# Altium integrated library Xilinx Aerospace and Defense.IntLib: 197 symbols (part 44 of 56)
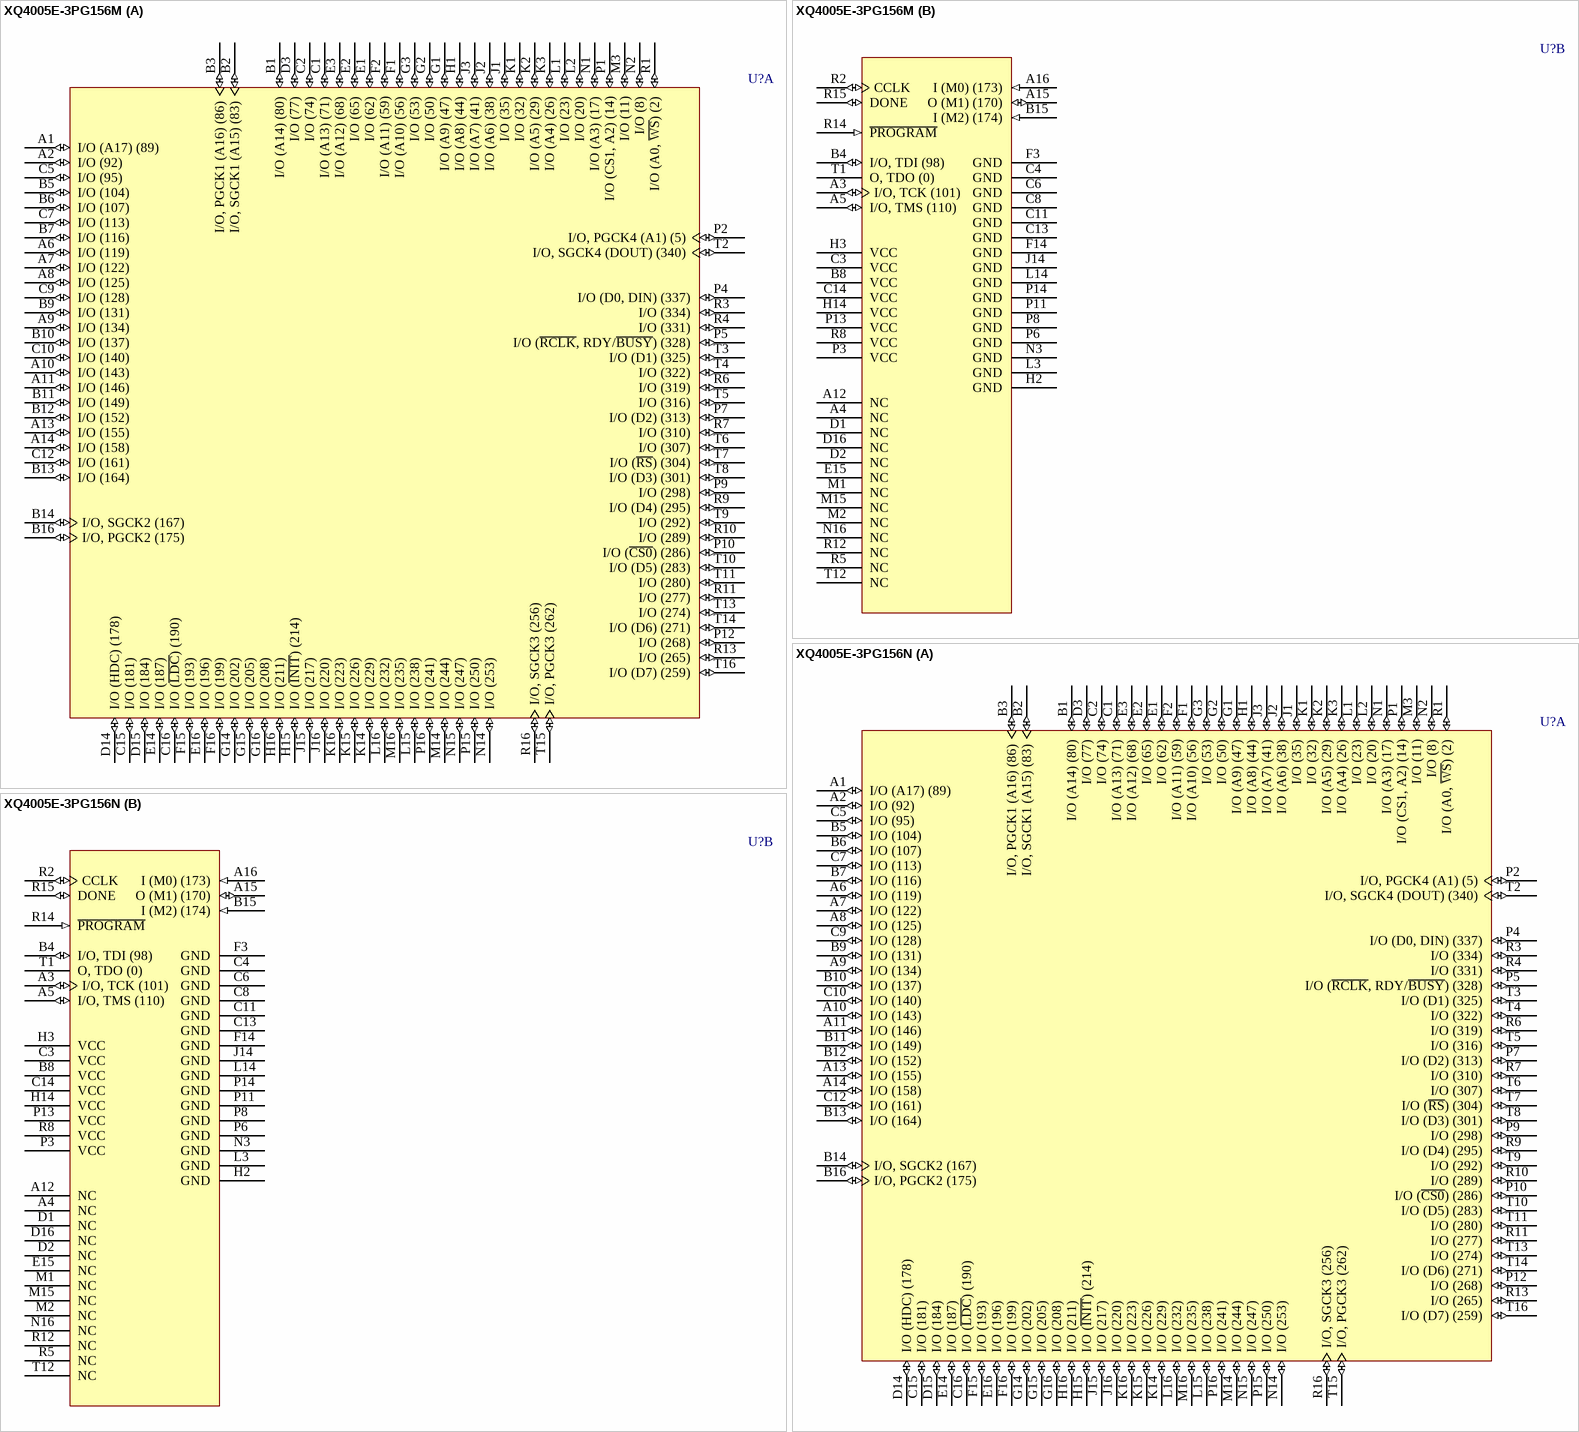
[diagram p351: symbols XQ4005E-3PG156M to XQ4005E-3PG156N]

## XQ4005E-3PG156N
designator U?
QPro XQ4005E QML 5V High-Reliability FPGA, 112 I/Os, 156-Pin Ceramic PGA, Speed Grade 3, Military Plastic Temperature Grade; Published: 17-Nov-2009; DatasheetVersion: ver2.2, Jun-2000; PackageVersion: ver1.1, Apr-2001; PackageReference: PG156; Publisher: Altium Limited; PackageDescription: 156-Pin Ceramic Pin Grid Array (PG156); Code_JEDEC: MO-067-AH; ComponentLink1Description: QPRO XQ4000E/EX Datasheet; ComponentLink1URL: http://www.xilinx.com/support/documentation/data_sheets/ds021.pdf; ComponentLink2Description: PG156 Package Drawing; ComponentLink2URL: http://www.xilinx.com/support/documentation/package_specs/pg156.pdf; ComponentLink3Description: Xilinx.com Home; ComponentLink3URL: http://www.xilinx.com
footprint PG156 (PGA, 156-Leads, Body 42x42mm, Pitch 2.54mm)
signal-integrity model XQ4005E_PG156 (XC-Series)
part A pins: A1 I/O (A17) (89) (io), A2 I/O (92) (io), A6 I/O (119) (io), A7 I/O (122) (io), A8 I/O (125) (io), A9 I/O (134) (io), A10 I/O (143) (io), A11 I/O (146) (io), A13 I/O (155) (io), A14 I/O (158) (io), B1 I/O (A14) (80) (io), B2 I/O, SGCK1 (A15) (83) (io), B3 I/O, PGCK1 (A16) (86) (io), B5 I/O (104) (io), B6 I/O (107) (io), B7 I/O (116) (io), B9 I/O (131) (io), B10 I/O (137) (io), B11 I/O (149) (io), B12 I/O (152) (io), B13 I/O (164) (io), B14 I/O, SGCK2 (167) (io), B16 I/O, PGCK2 (175) (io), C1 I/O (A13) (71) (io), C2 I/O (74) (io), C5 I/O (95) (io), C7 I/O (113) (io), C9 I/O (128) (io), C10 I/O (140) (io), C12 I/O (161) (io), C15 I/O (181) (io), C16 I/O (~{LDC}) (190) (io), D3 I/O (77) (io), D14 I/O (HDC) (178) (io), D15 I/O (184) (io), E1 I/O (62) (io), E2 I/O (65) (io), E3 I/O (A12) (68) (io), E14 I/O (187) (io), E16 I/O (196) (io), F1 I/O (A10) (56) (io), F2 I/O (A11) (59) (io), F15 I/O (193) (io), F16 I/O (199) (io), G1 I/O (A9) (47) (io), G2 I/O (50) (io), G3 I/O (53) (io), G14 I/O (202) (io), G15 I/O (205) (io), G16 I/O (208) (io), H1 I/O (A8) (44) (io), H15 I/O (~{INIT}) (214) (io), H16 I/O (211) (io), J1 I/O (35) (io), J2 I/O (A6) (38) (io), J3 I/O (A7) (41) (io), J15 I/O (217) (io), J16 I/O (220) (io), K1 I/O (32) (io), K2 I/O (A5) (29) (io), K3 I/O (A4) (26) (io), K14 I/O (229) (io), K15 I/O (226) (io), K16 I/O (223) (io), L1 I/O (23) (io), L2 I/O (20) (io), L15 I/O (238) (io), L16 I/O (232) (io), M3 I/O (11) (io), M14 I/O (244) (io), M16 I/O (235) (io), N1 I/O (A3) (17) (io), N2 I/O (8) (io), N14 I/O (253) (io), N15 I/O (247) (io), P1 I/O (CS1, A2) (14) (io), P2 I/O, PGCK4 (A1) (5) (io), P4 I/O (D0, DIN) (337) (io), P5 I/O (~{RCLK}, RDY/~{BUSY}) (328) (io), P7 I/O (D2) (313) (io), P9 I/O (298) (io), P10 I/O (~{CS0}) (286) (io), P12 I/O (268) (io), P15 I/O (250) (io), P16 I/O (241) (io), R1 I/O (A0, ~{WS}) (2) (io), R3 I/O (334) (io), R4 I/O (331) (io), R6 I/O (319) (io), R7 I/O (310) (io), R9 I/O (D4) (295) (io), R10 I/O (289) (io), R11 I/O (277) (io), R13 I/O (265) (io), R16 I/O, SGCK3 (256) (io), T2 I/O, SGCK4 (DOUT) (340) (io), T3 I/O (D1) (325) (io), T4 I/O (322) (io), T5 I/O (316) (io), T6 I/O (307) (io), T7 I/O (~{RS}) (304) (io), T8 I/O (D3) (301) (io), T9 I/O (292) (io), T10 I/O (D5) (283) (io), T11 I/O (280) (io), T13 I/O (274) (io), T14 I/O (D6) (271) (io), T15 I/O, PGCK3 (262) (io), T16 I/O (D7) (259) (io)
part B pins: A3 I/O, TCK (101) (io), A4 NC, A5 I/O, TMS (110) (io), A12 NC, A15 O (M1) (170) (io), A16 I (M0) (173) (in), B4 I/O, TDI (98) (io), B8 VCC (power), B15 I (M2) (174) (in), C3 VCC (power), C4 GND (power), C6 GND (power), C8 GND (power), C11 GND (power), C13 GND (power), C14 VCC (power), D1 NC, D2 NC, D16 NC, E15 NC, F3 GND (power), F14 GND (power), H2 GND (power), H3 VCC (power), H14 VCC (power), J14 GND (power), L3 GND (power), L14 GND (power), M1 NC, M2 NC, M15 NC, N3 GND (power), N16 NC, P3 VCC (power), P6 GND (power), P8 GND (power), P11 GND (power), P13 VCC (power), P14 GND (power), R2 CCLK (io), R5 NC, R8 VCC (power), R12 NC, R14 ~{PROGRAM} (in), R15 DONE (io), T1 O, TDO (0) (hiz), T12 NC

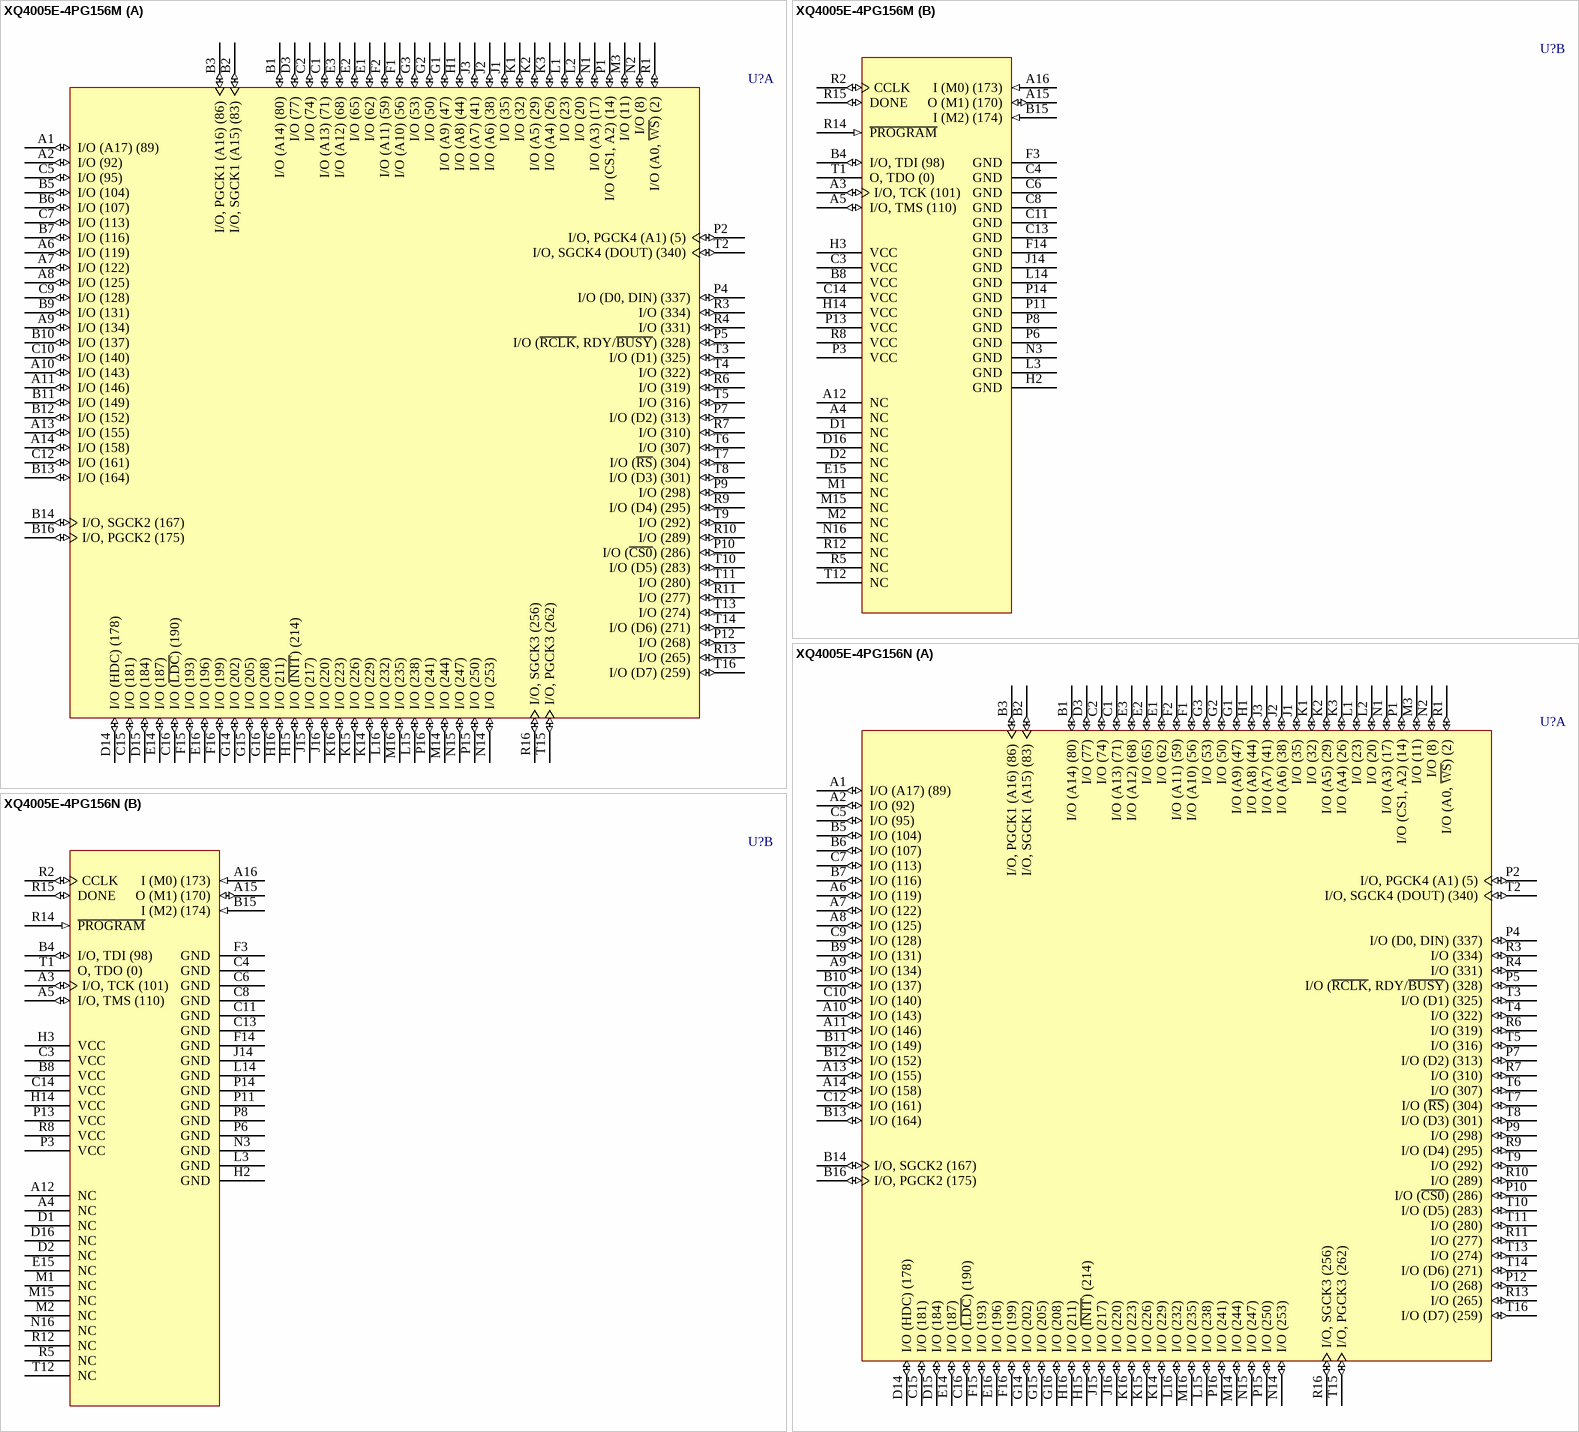
[diagram p154: symbols XQ4005E-4PG156M to XQ4005E-4PG156N]

## XQ4005E-4PG156M
designator U?
QPro XQ4005E QML 5V High-Reliability FPGA, 156-Pin Ceramic PGA, Speed Grade 4, Military Ceramic Temperature Grade; Published: 17-Nov-2009; DatasheetVersion: ver2.2, Jun-2000; PackageVersion: ver1.1, Apr-2001; PackageReference: PG156; Publisher: Altium Limited; PackageDescription: 156-Pin Ceramic Pin Grid Array (PG156); Code_JEDEC: MO-067-AH; ComponentLink1Description: QPRO XQ4000E/EX Datasheet; ComponentLink1URL: http://www.xilinx.com/support/documentation/data_sheets/ds021.pdf; ComponentLink2Description: PG156 Package Drawing; ComponentLink2URL: http://www.xilinx.com/support/documentation/package_specs/pg156.pdf; ComponentLink3Description: Xilinx.com Home; ComponentLink3URL: http://www.xilinx.com
footprint PG156 (PGA, 156-Leads, Body 42x42mm, Pitch 2.54mm)
signal-integrity model XQ4005E_PG156 (XC-Series)
part A pins: A1 I/O (A17) (89) (io), A2 I/O (92) (io), A6 I/O (119) (io), A7 I/O (122) (io), A8 I/O (125) (io), A9 I/O (134) (io), A10 I/O (143) (io), A11 I/O (146) (io), A13 I/O (155) (io), A14 I/O (158) (io), B1 I/O (A14) (80) (io), B2 I/O, SGCK1 (A15) (83) (io), B3 I/O, PGCK1 (A16) (86) (io), B5 I/O (104) (io), B6 I/O (107) (io), B7 I/O (116) (io), B9 I/O (131) (io), B10 I/O (137) (io), B11 I/O (149) (io), B12 I/O (152) (io), B13 I/O (164) (io), B14 I/O, SGCK2 (167) (io), B16 I/O, PGCK2 (175) (io), C1 I/O (A13) (71) (io), C2 I/O (74) (io), C5 I/O (95) (io), C7 I/O (113) (io), C9 I/O (128) (io), C10 I/O (140) (io), C12 I/O (161) (io), C15 I/O (181) (io), C16 I/O (~{LDC}) (190) (io), D3 I/O (77) (io), D14 I/O (HDC) (178) (io), D15 I/O (184) (io), E1 I/O (62) (io), E2 I/O (65) (io), E3 I/O (A12) (68) (io), E14 I/O (187) (io), E16 I/O (196) (io), F1 I/O (A10) (56) (io), F2 I/O (A11) (59) (io), F15 I/O (193) (io), F16 I/O (199) (io), G1 I/O (A9) (47) (io), G2 I/O (50) (io), G3 I/O (53) (io), G14 I/O (202) (io), G15 I/O (205) (io), G16 I/O (208) (io), H1 I/O (A8) (44) (io), H15 I/O (~{INIT}) (214) (io), H16 I/O (211) (io), J1 I/O (35) (io), J2 I/O (A6) (38) (io), J3 I/O (A7) (41) (io), J15 I/O (217) (io), J16 I/O (220) (io), K1 I/O (32) (io), K2 I/O (A5) (29) (io), K3 I/O (A4) (26) (io), K14 I/O (229) (io), K15 I/O (226) (io), K16 I/O (223) (io), L1 I/O (23) (io), L2 I/O (20) (io), L15 I/O (238) (io), L16 I/O (232) (io), M3 I/O (11) (io), M14 I/O (244) (io), M16 I/O (235) (io), N1 I/O (A3) (17) (io), N2 I/O (8) (io), N14 I/O (253) (io), N15 I/O (247) (io), P1 I/O (CS1, A2) (14) (io), P2 I/O, PGCK4 (A1) (5) (io), P4 I/O (D0, DIN) (337) (io), P5 I/O (~{RCLK}, RDY/~{BUSY}) (328) (io), P7 I/O (D2) (313) (io), P9 I/O (298) (io), P10 I/O (~{CS0}) (286) (io), P12 I/O (268) (io), P15 I/O (250) (io), P16 I/O (241) (io), R1 I/O (A0, ~{WS}) (2) (io), R3 I/O (334) (io), R4 I/O (331) (io), R6 I/O (319) (io), R7 I/O (310) (io), R9 I/O (D4) (295) (io), R10 I/O (289) (io), R11 I/O (277) (io), R13 I/O (265) (io), R16 I/O, SGCK3 (256) (io), T2 I/O, SGCK4 (DOUT) (340) (io), T3 I/O (D1) (325) (io), T4 I/O (322) (io), T5 I/O (316) (io), T6 I/O (307) (io), T7 I/O (~{RS}) (304) (io), T8 I/O (D3) (301) (io), T9 I/O (292) (io), T10 I/O (D5) (283) (io), T11 I/O (280) (io), T13 I/O (274) (io), T14 I/O (D6) (271) (io), T15 I/O, PGCK3 (262) (io), T16 I/O (D7) (259) (io)
part B pins: A3 I/O, TCK (101) (io), A4 NC, A5 I/O, TMS (110) (io), A12 NC, A15 O (M1) (170) (io), A16 I (M0) (173) (in), B4 I/O, TDI (98) (io), B8 VCC (power), B15 I (M2) (174) (in), C3 VCC (power), C4 GND (power), C6 GND (power), C8 GND (power), C11 GND (power), C13 GND (power), C14 VCC (power), D1 NC, D2 NC, D16 NC, E15 NC, F3 GND (power), F14 GND (power), H2 GND (power), H3 VCC (power), H14 VCC (power), J14 GND (power), L3 GND (power), L14 GND (power), M1 NC, M2 NC, M15 NC, N3 GND (power), N16 NC, P3 VCC (power), P6 GND (power), P8 GND (power), P11 GND (power), P13 VCC (power), P14 GND (power), R2 CCLK (io), R5 NC, R8 VCC (power), R12 NC, R14 ~{PROGRAM} (in), R15 DONE (io), T1 O, TDO (0) (hiz), T12 NC

## XQ4005E-4PG156N
designator U?
QPro XQ4005E QML 5V High-Reliability FPGA, 112 I/Os, 156-Pin Ceramic PGA, Speed Grade 4, Military Plastic Temperature Grade; Published: 17-Nov-2009; DatasheetVersion: ver2.2, Jun-2000; PackageVersion: ver1.1, Apr-2001; PackageReference: PG156; Publisher: Altium Limited; PackageDescription: 156-Pin Ceramic Pin Grid Array (PG156); Code_JEDEC: MO-067-AH; ComponentLink1Description: QPRO XQ4000E/EX Datasheet; ComponentLink1URL: http://www.xilinx.com/support/documentation/data_sheets/ds021.pdf; ComponentLink2Description: PG156 Package Drawing; ComponentLink2URL: http://www.xilinx.com/support/documentation/package_specs/pg156.pdf; ComponentLink3Description: Xilinx.com Home; ComponentLink3URL: http://www.xilinx.com
footprint PG156 (PGA, 156-Leads, Body 42x42mm, Pitch 2.54mm)
signal-integrity model XQ4005E_PG156 (XC-Series)
part A pins: A1 I/O (A17) (89) (io), A2 I/O (92) (io), A6 I/O (119) (io), A7 I/O (122) (io), A8 I/O (125) (io), A9 I/O (134) (io), A10 I/O (143) (io), A11 I/O (146) (io), A13 I/O (155) (io), A14 I/O (158) (io), B1 I/O (A14) (80) (io), B2 I/O, SGCK1 (A15) (83) (io), B3 I/O, PGCK1 (A16) (86) (io), B5 I/O (104) (io), B6 I/O (107) (io), B7 I/O (116) (io), B9 I/O (131) (io), B10 I/O (137) (io), B11 I/O (149) (io), B12 I/O (152) (io), B13 I/O (164) (io), B14 I/O, SGCK2 (167) (io), B16 I/O, PGCK2 (175) (io), C1 I/O (A13) (71) (io), C2 I/O (74) (io), C5 I/O (95) (io), C7 I/O (113) (io), C9 I/O (128) (io), C10 I/O (140) (io), C12 I/O (161) (io), C15 I/O (181) (io), C16 I/O (~{LDC}) (190) (io), D3 I/O (77) (io), D14 I/O (HDC) (178) (io), D15 I/O (184) (io), E1 I/O (62) (io), E2 I/O (65) (io), E3 I/O (A12) (68) (io), E14 I/O (187) (io), E16 I/O (196) (io), F1 I/O (A10) (56) (io), F2 I/O (A11) (59) (io), F15 I/O (193) (io), F16 I/O (199) (io), G1 I/O (A9) (47) (io), G2 I/O (50) (io), G3 I/O (53) (io), G14 I/O (202) (io), G15 I/O (205) (io), G16 I/O (208) (io), H1 I/O (A8) (44) (io), H15 I/O (~{INIT}) (214) (io), H16 I/O (211) (io), J1 I/O (35) (io), J2 I/O (A6) (38) (io), J3 I/O (A7) (41) (io), J15 I/O (217) (io), J16 I/O (220) (io), K1 I/O (32) (io), K2 I/O (A5) (29) (io), K3 I/O (A4) (26) (io), K14 I/O (229) (io), K15 I/O (226) (io), K16 I/O (223) (io), L1 I/O (23) (io), L2 I/O (20) (io), L15 I/O (238) (io), L16 I/O (232) (io), M3 I/O (11) (io), M14 I/O (244) (io), M16 I/O (235) (io), N1 I/O (A3) (17) (io), N2 I/O (8) (io), N14 I/O (253) (io), N15 I/O (247) (io), P1 I/O (CS1, A2) (14) (io), P2 I/O, PGCK4 (A1) (5) (io), P4 I/O (D0, DIN) (337) (io), P5 I/O (~{RCLK}, RDY/~{BUSY}) (328) (io), P7 I/O (D2) (313) (io), P9 I/O (298) (io), P10 I/O (~{CS0}) (286) (io), P12 I/O (268) (io), P15 I/O (250) (io), P16 I/O (241) (io), R1 I/O (A0, ~{WS}) (2) (io), R3 I/O (334) (io), R4 I/O (331) (io), R6 I/O (319) (io), R7 I/O (310) (io), R9 I/O (D4) (295) (io), R10 I/O (289) (io), R11 I/O (277) (io), R13 I/O (265) (io), R16 I/O, SGCK3 (256) (io), T2 I/O, SGCK4 (DOUT) (340) (io), T3 I/O (D1) (325) (io), T4 I/O (322) (io), T5 I/O (316) (io), T6 I/O (307) (io), T7 I/O (~{RS}) (304) (io), T8 I/O (D3) (301) (io), T9 I/O (292) (io), T10 I/O (D5) (283) (io), T11 I/O (280) (io), T13 I/O (274) (io), T14 I/O (D6) (271) (io), T15 I/O, PGCK3 (262) (io), T16 I/O (D7) (259) (io)
part B pins: A3 I/O, TCK (101) (io), A4 NC, A5 I/O, TMS (110) (io), A12 NC, A15 O (M1) (170) (io), A16 I (M0) (173) (in), B4 I/O, TDI (98) (io), B8 VCC (power), B15 I (M2) (174) (in), C3 VCC (power), C4 GND (power), C6 GND (power), C8 GND (power), C11 GND (power), C13 GND (power), C14 VCC (power), D1 NC, D2 NC, D16 NC, E15 NC, F3 GND (power), F14 GND (power), H2 GND (power), H3 VCC (power), H14 VCC (power), J14 GND (power), L3 GND (power), L14 GND (power), M1 NC, M2 NC, M15 NC, N3 GND (power), N16 NC, P3 VCC (power), P6 GND (power), P8 GND (power), P11 GND (power), P13 VCC (power), P14 GND (power), R2 CCLK (io), R5 NC, R8 VCC (power), R12 NC, R14 ~{PROGRAM} (in), R15 DONE (io), T1 O, TDO (0) (hiz), T12 NC

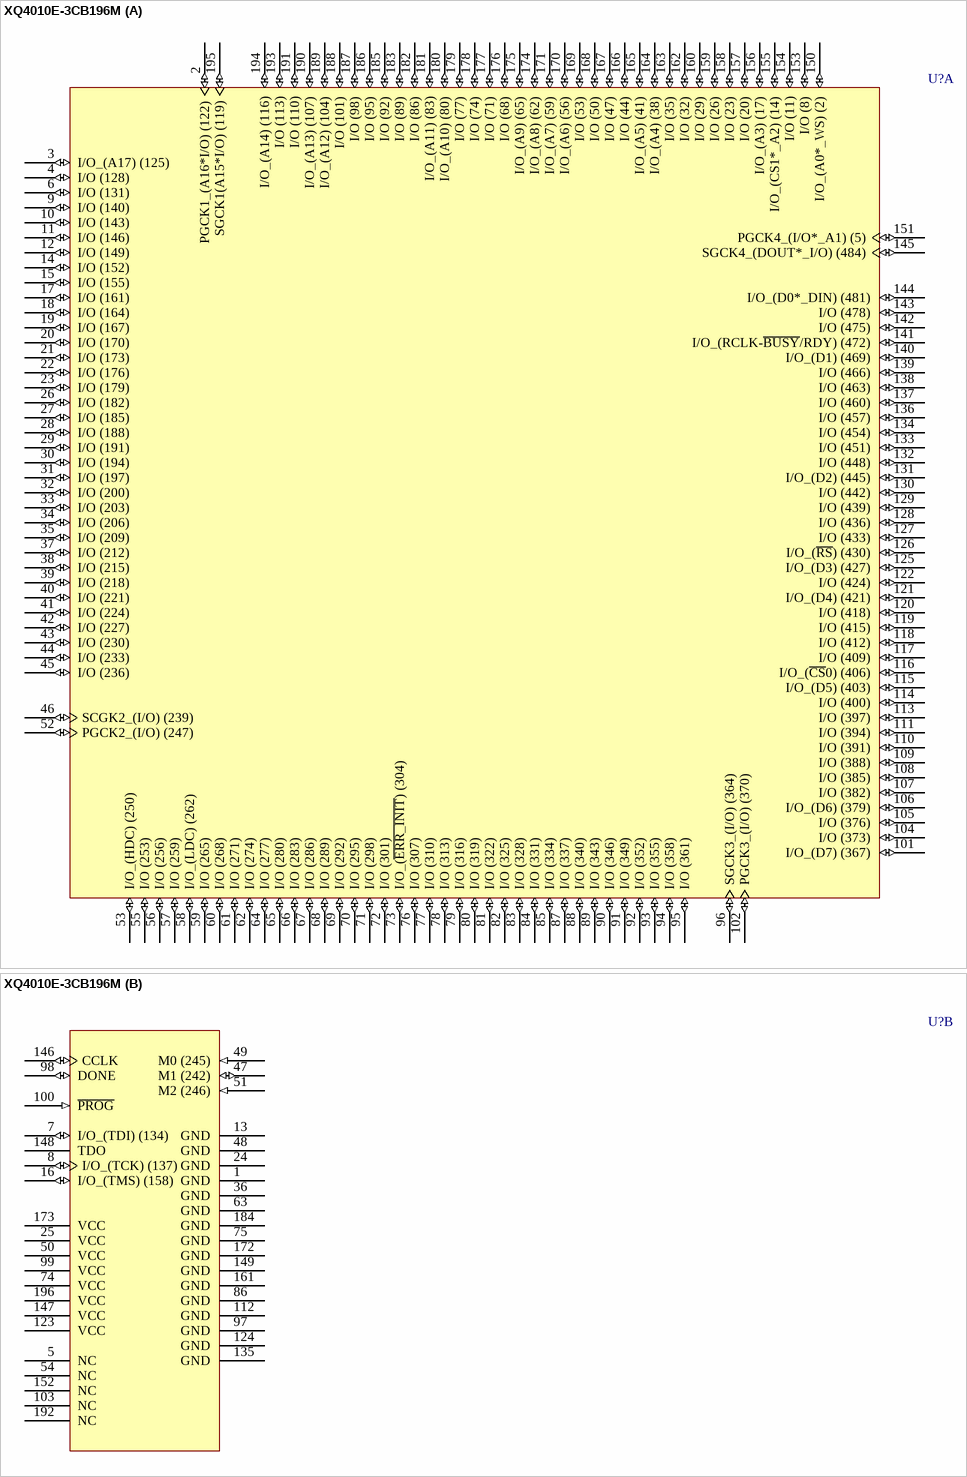
[diagram p155: symbol XQ4010E-3CB196M]

## XQ4010E-3CB196M
designator U?
QPro XQ4010E QML 5V High-Reliability FPGA, 160 I/Os, 196-Pin CQFP, Speed Grade 3, Military Ceramic Temperature Grade; Published: 17-Nov-2009; DatasheetVersion: ver2.2, Jun-2000; PackageVersion: ver1.0.1, Apr-2008; PackageReference: CB196; Publisher: Altium Limited; PackageDescription: 196-Pin Ceramic Brazed Quad Flat Pack (CB196); Code_JEDEC: MO-113-AB; ComponentLink1Description: QPRO XQ4000E/EX Datasheet; ComponentLink1URL: http://www.xilinx.com/support/documentation/data_sheets/ds021.pdf; ComponentLink2Description: CB196 Package Drawing; ComponentLink2URL: http://www.xilinx.com/support/documentation/package_specs/cb196.pdf; ComponentLink3Description: Xilinx.com Home; ComponentLink3URL: http://www.xilinx.com
footprint CB196_N (CQFP, 196-Leads, Body 34x34mm; Pitch 0.635mm, Gullwing Leadform, IPC Medium Density)
footprint CB196_L (CQFP, 196-Leads, Body 34x34mm; Pitch 0.635mm, Gullwing Leadform, IPC High Density)
footprint CB196_M (CQFP, 196-Leads, Body 34x34mm; Pitch 0.635mm, Gullwing Leadform, IPC Low Density)
signal-integrity model XQ4010E_CB196 (XC-Series)
part A pins: 2 PGCK1_(A16*I/O) (122) (io), 3 I/O_(A17) (125) (io), 4 I/O (128) (io), 6 I/O (131) (io), 9 I/O (140) (io), 10 I/O (143) (io), 11 I/O (146) (io), 12 I/O (149) (io), 14 I/O (152) (io), 15 I/O (155) (io), 17 I/O (161) (io), 18 I/O (164) (io), 19 I/O (167) (io), 20 I/O (170) (io), 21 I/O (173) (io), 22 I/O (176) (io), 23 I/O (179) (io), 26 I/O (182) (io), 27 I/O (185) (io), 28 I/O (188) (io), 29 I/O (191) (io), 30 I/O (194) (io), 31 I/O (197) (io), 32 I/O (200) (io), 33 I/O (203) (io), 34 I/O (206) (io), 35 I/O (209) (io), 37 I/O (212) (io), 38 I/O (215) (io), 39 I/O (218) (io), 40 I/O (221) (io), 41 I/O (224) (io), 42 I/O (227) (io), 43 I/O (230) (io), 44 I/O (233) (io), 45 I/O (236) (io), 46 SCGK2_(I/O) (239) (io), 52 PGCK2_(I/O) (247) (io), 53 I/O_(HDC) (250) (io), 55 I/O (253) (io), 56 I/O (256) (io), 57 I/O (259) (io), 58 I/O_(LDC) (262) (io), 59 I/O (265) (io), 60 I/O (268) (io), 61 I/O (271) (io), 62 I/O (274) (io), 64 I/O (277) (io), 65 I/O (280) (io), 66 I/O (283) (io), 67 I/O (286) (io), 68 I/O (289) (io), 69 I/O (292) (io), 70 I/O (295) (io), 71 I/O (298) (io), 72 I/O (301) (io), 73 I/O_(~{ERR_INIT}) (304) (io), 76 I/O (307) (io), 77 I/O (310) (io), 78 I/O (313) (io), 79 I/O (316) (io), 80 I/O (319) (io), 81 I/O (322) (io), 82 I/O (325) (io), 83 I/O (328) (io), 84 I/O (331) (io), 85 I/O (334) (io), 87 I/O (337) (io), 88 I/O (340) (io), 89 I/O (343) (io), 90 I/O (346) (io), 91 I/O (349) (io), 92 I/O (352) (io), 93 I/O (355) (io), 94 I/O (358) (io), 95 I/O (361) (io), 96 SGCK3_(I/O) (364) (io), 101 I/O_(D7) (367) (io), 102 PGCK3_(I/O) (370) (io), 104 I/O (373) (io), 105 I/O (376) (io), 106 I/O_(D6) (379) (io), 107 I/O (382) (io), 108 I/O (385) (io), 109 I/O (388) (io), 110 I/O (391) (io), 111 I/O (394) (io), 113 I/O (397) (io), 114 I/O (400) (io), 115 I/O_(D5) (403) (io), 116 I/O_(~{CS}0) (406) (io), 117 I/O (409) (io), 118 I/O (412) (io), 119 I/O (415) (io), 120 I/O (418) (io), 121 I/O_(D4) (421) (io), 122 I/O (424) (io), 125 I/O_(D3) (427) (io), 126 I/O_(~{RS}) (430) (io), 127 I/O (433) (io), 128 I/O (436) (io), 129 I/O (439) (io), 130 I/O (442) (io), 131 I/O_(D2) (445) (io), 132 I/O (448) (io), 133 I/O (451) (io), 134 I/O (454) (io), 136 I/O (457) (io), 137 I/O (460) (io), 138 I/O (463) (io), 139 I/O (466) (io), 140 I/O_(D1) (469) (io), 141 I/O_(RCLK-~{BUSY}/RDY) (472) (io), 142 I/O (475) (io), 143 I/O (478) (io), 144 I/O_(D0*_DIN) (481) (io), 145 SGCK4_(DOUT*_I/O) (484) (io), 150 I/O_(A0*_WS) (2) (io), 151 PGCK4_(I/O*_A1) (5) (io), 153 I/O (8) (io), 154 I/O (11) (io), 155 I/O_(CS1*_A2) (14) (io), 156 I/O_(A3) (17) (io), 157 I/O (20) (io), 158 I/O (23) (io), 159 I/O (26) (io), 160 I/O (29) (io), 162 I/O (32) (io), 163 I/O (35) (io), 164 I/O_(A4) (38) (io), 165 I/O_(A5) (41) (io), 166 I/O (44) (io), 167 I/O (47) (io), 168 I/O (50) (io), 169 I/O (53) (io), 170 I/O_(A6) (56) (io), 171 I/O_(A7) (59) (io), 174 I/O_(A8) (62) (io), 175 I/O_(A9) (65) (io), 176 I/O (68) (io), 177 I/O (71) (io), 178 I/O (74) (io), 179 I/O (77) (io), 180 I/O_(A10) (80) (io), 181 I/O_(A11) (83) (io), 182 I/O (86) (io), 183 I/O (89) (io), 185 I/O (92) (io), 186 I/O (95) (io), 187 I/O (98) (io), 188 I/O (101) (io), 189 I/O_(A12) (104) (io), 190 I/O_(A13) (107) (io), 191 I/O (110) (io), 193 I/O (113) (io), 194 I/O_(A14) (116) (io), 195 SGCK1(A15*I/O) (119) (io)
part B pins: 1 GND (power), 5 NC, 7 I/O_(TDI) (134) (io), 8 I/O_(TCK) (137) (io), 13 GND (power), 16 I/O_(TMS) (158) (io), 24 GND (power), 25 VCC (power), 36 GND (power), 47 M1 (242) (io), 48 GND (power), 49 M0 (245) (in), 50 VCC (power), 51 M2 (246) (in), 54 NC, 63 GND (power), 74 VCC (power), 75 GND (power), 86 GND (power), 97 GND (power), 98 DONE (io), 99 VCC (power), 100 ~{PROG} (in), 103 NC, 112 GND (power), 123 VCC (power), 124 GND (power), 135 GND (power), 146 CCLK (io), 147 VCC (power), 148 TDO (hiz), 149 GND (power), 152 NC, 161 GND (power), 172 GND (power), 173 VCC (power), 184 GND (power), 192 NC, 196 VCC (power)

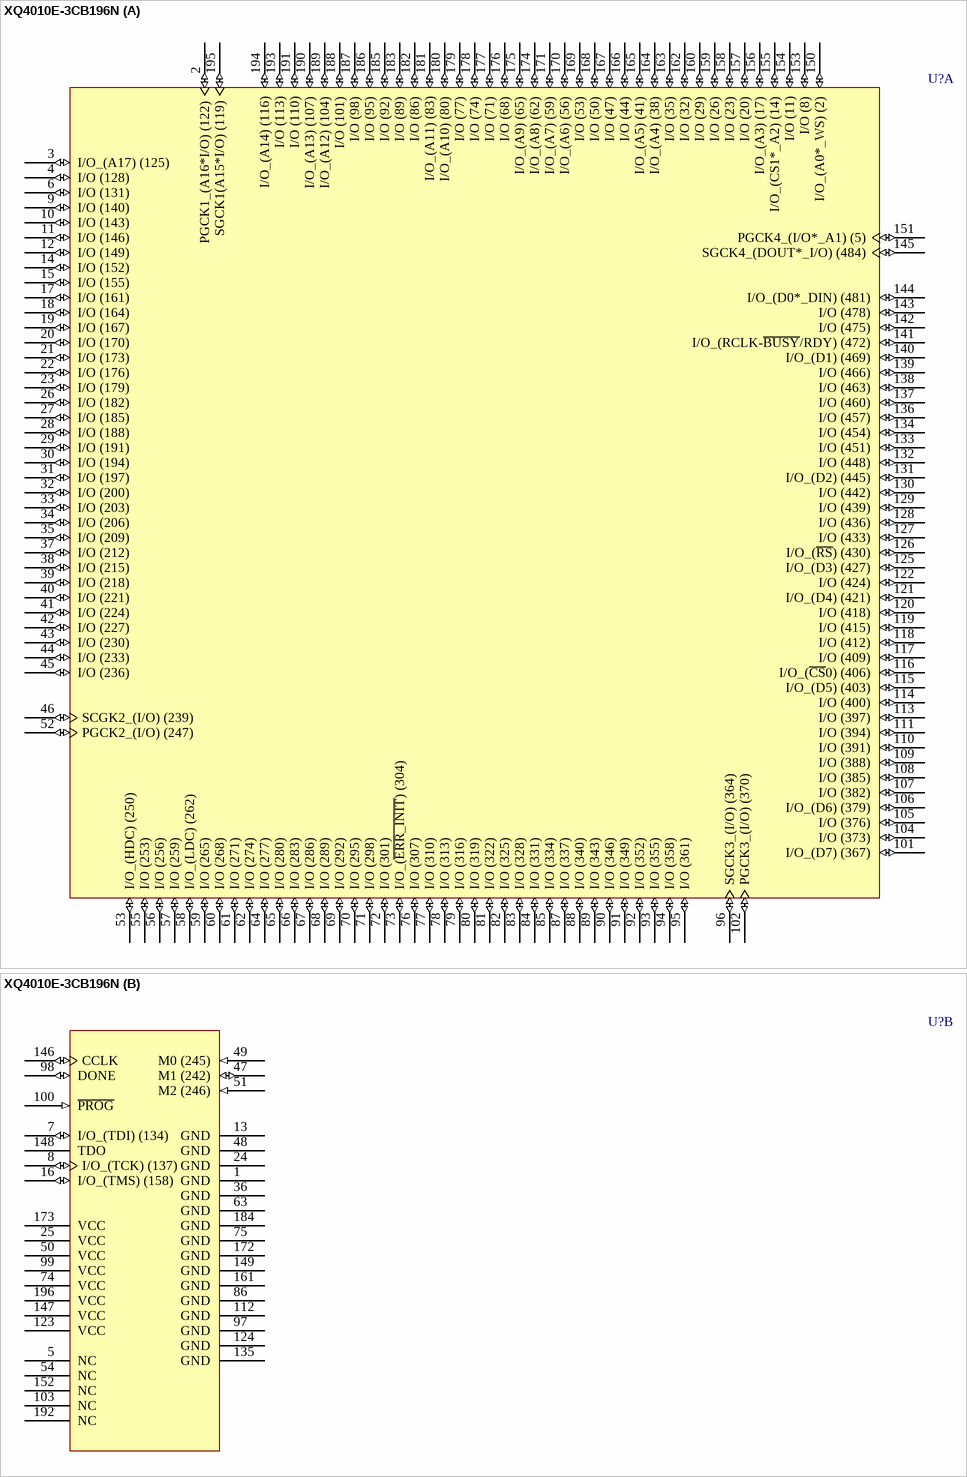
[diagram p156: symbol XQ4010E-3CB196N]

## XQ4010E-3CB196N
designator U?
QPro XQ4010E QML 5V High-Reliability FPGA, 160 I/Os, 196-Pin CQFP, Speed Grade 3, Military Plastic Temperature Grade; Published: 17-Nov-2009; DatasheetVersion: ver2.2, Jun-2000; PackageVersion: ver1.0.1, Apr-2008; PackageReference: CB196; Publisher: Altium Limited; PackageDescription: 196-Pin Ceramic Brazed Quad Flat Pack (CB196); Code_JEDEC: MO-113-AB; ComponentLink1Description: QPRO XQ4000E/EX Datasheet; ComponentLink1URL: http://www.xilinx.com/support/documentation/data_sheets/ds021.pdf; ComponentLink2Description: CB196 Package Drawing; ComponentLink2URL: http://www.xilinx.com/support/documentation/package_specs/cb196.pdf; ComponentLink3Description: Xilinx.com Home; ComponentLink3URL: http://www.xilinx.com
footprint CB196_N (CQFP, 196-Leads, Body 34x34mm; Pitch 0.635mm, Gullwing Leadform, IPC Medium Density)
footprint CB196_L (CQFP, 196-Leads, Body 34x34mm; Pitch 0.635mm, Gullwing Leadform, IPC High Density)
footprint CB196_M (CQFP, 196-Leads, Body 34x34mm; Pitch 0.635mm, Gullwing Leadform, IPC Low Density)
signal-integrity model XQ4010E_CB196 (XC-Series)
part A pins: 2 PGCK1_(A16*I/O) (122) (io), 3 I/O_(A17) (125) (io), 4 I/O (128) (io), 6 I/O (131) (io), 9 I/O (140) (io), 10 I/O (143) (io), 11 I/O (146) (io), 12 I/O (149) (io), 14 I/O (152) (io), 15 I/O (155) (io), 17 I/O (161) (io), 18 I/O (164) (io), 19 I/O (167) (io), 20 I/O (170) (io), 21 I/O (173) (io), 22 I/O (176) (io), 23 I/O (179) (io), 26 I/O (182) (io), 27 I/O (185) (io), 28 I/O (188) (io), 29 I/O (191) (io), 30 I/O (194) (io), 31 I/O (197) (io), 32 I/O (200) (io), 33 I/O (203) (io), 34 I/O (206) (io), 35 I/O (209) (io), 37 I/O (212) (io), 38 I/O (215) (io), 39 I/O (218) (io), 40 I/O (221) (io), 41 I/O (224) (io), 42 I/O (227) (io), 43 I/O (230) (io), 44 I/O (233) (io), 45 I/O (236) (io), 46 SCGK2_(I/O) (239) (io), 52 PGCK2_(I/O) (247) (io), 53 I/O_(HDC) (250) (io), 55 I/O (253) (io), 56 I/O (256) (io), 57 I/O (259) (io), 58 I/O_(LDC) (262) (io), 59 I/O (265) (io), 60 I/O (268) (io), 61 I/O (271) (io), 62 I/O (274) (io), 64 I/O (277) (io), 65 I/O (280) (io), 66 I/O (283) (io), 67 I/O (286) (io), 68 I/O (289) (io), 69 I/O (292) (io), 70 I/O (295) (io), 71 I/O (298) (io), 72 I/O (301) (io), 73 I/O_(~{ERR_INIT}) (304) (io), 76 I/O (307) (io), 77 I/O (310) (io), 78 I/O (313) (io), 79 I/O (316) (io), 80 I/O (319) (io), 81 I/O (322) (io), 82 I/O (325) (io), 83 I/O (328) (io), 84 I/O (331) (io), 85 I/O (334) (io), 87 I/O (337) (io), 88 I/O (340) (io), 89 I/O (343) (io), 90 I/O (346) (io), 91 I/O (349) (io), 92 I/O (352) (io), 93 I/O (355) (io), 94 I/O (358) (io), 95 I/O (361) (io), 96 SGCK3_(I/O) (364) (io), 101 I/O_(D7) (367) (io), 102 PGCK3_(I/O) (370) (io), 104 I/O (373) (io), 105 I/O (376) (io), 106 I/O_(D6) (379) (io), 107 I/O (382) (io), 108 I/O (385) (io), 109 I/O (388) (io), 110 I/O (391) (io), 111 I/O (394) (io), 113 I/O (397) (io), 114 I/O (400) (io), 115 I/O_(D5) (403) (io), 116 I/O_(~{CS}0) (406) (io), 117 I/O (409) (io), 118 I/O (412) (io), 119 I/O (415) (io), 120 I/O (418) (io), 121 I/O_(D4) (421) (io), 122 I/O (424) (io), 125 I/O_(D3) (427) (io), 126 I/O_(~{RS}) (430) (io), 127 I/O (433) (io), 128 I/O (436) (io), 129 I/O (439) (io), 130 I/O (442) (io), 131 I/O_(D2) (445) (io), 132 I/O (448) (io), 133 I/O (451) (io), 134 I/O (454) (io), 136 I/O (457) (io), 137 I/O (460) (io), 138 I/O (463) (io), 139 I/O (466) (io), 140 I/O_(D1) (469) (io), 141 I/O_(RCLK-~{BUSY}/RDY) (472) (io), 142 I/O (475) (io), 143 I/O (478) (io), 144 I/O_(D0*_DIN) (481) (io), 145 SGCK4_(DOUT*_I/O) (484) (io), 150 I/O_(A0*_WS) (2) (io), 151 PGCK4_(I/O*_A1) (5) (io), 153 I/O (8) (io), 154 I/O (11) (io), 155 I/O_(CS1*_A2) (14) (io), 156 I/O_(A3) (17) (io), 157 I/O (20) (io), 158 I/O (23) (io), 159 I/O (26) (io), 160 I/O (29) (io), 162 I/O (32) (io), 163 I/O (35) (io), 164 I/O_(A4) (38) (io), 165 I/O_(A5) (41) (io), 166 I/O (44) (io), 167 I/O (47) (io), 168 I/O (50) (io), 169 I/O (53) (io), 170 I/O_(A6) (56) (io), 171 I/O_(A7) (59) (io), 174 I/O_(A8) (62) (io), 175 I/O_(A9) (65) (io), 176 I/O (68) (io), 177 I/O (71) (io), 178 I/O (74) (io), 179 I/O (77) (io), 180 I/O_(A10) (80) (io), 181 I/O_(A11) (83) (io), 182 I/O (86) (io), 183 I/O (89) (io), 185 I/O (92) (io), 186 I/O (95) (io), 187 I/O (98) (io), 188 I/O (101) (io), 189 I/O_(A12) (104) (io), 190 I/O_(A13) (107) (io), 191 I/O (110) (io), 193 I/O (113) (io), 194 I/O_(A14) (116) (io), 195 SGCK1(A15*I/O) (119) (io)
part B pins: 1 GND (power), 5 NC, 7 I/O_(TDI) (134) (io), 8 I/O_(TCK) (137) (io), 13 GND (power), 16 I/O_(TMS) (158) (io), 24 GND (power), 25 VCC (power), 36 GND (power), 47 M1 (242) (io), 48 GND (power), 49 M0 (245) (in), 50 VCC (power), 51 M2 (246) (in), 54 NC, 63 GND (power), 74 VCC (power), 75 GND (power), 86 GND (power), 97 GND (power), 98 DONE (io), 99 VCC (power), 100 ~{PROG} (in), 103 NC, 112 GND (power), 123 VCC (power), 124 GND (power), 135 GND (power), 146 CCLK (io), 147 VCC (power), 148 TDO (hiz), 149 GND (power), 152 NC, 161 GND (power), 172 GND (power), 173 VCC (power), 184 GND (power), 192 NC, 196 VCC (power)

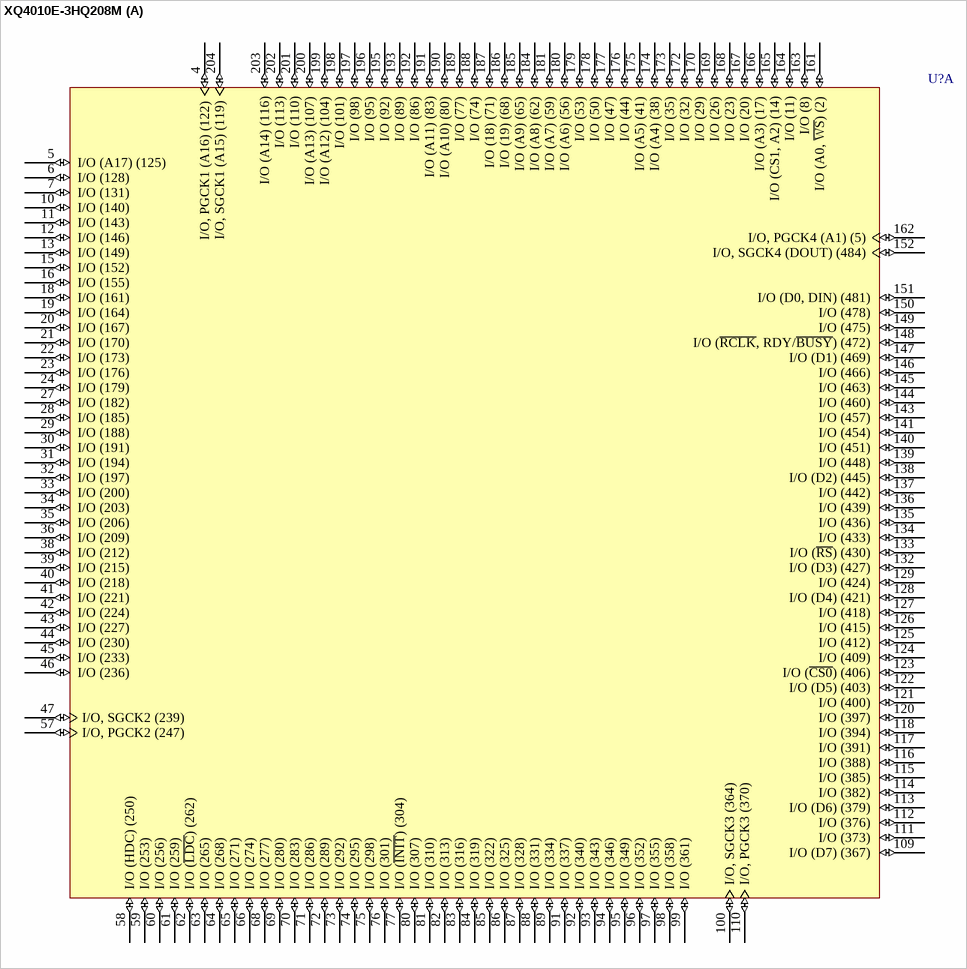
[diagram p157: symbol XQ4010E-3HQ208M]

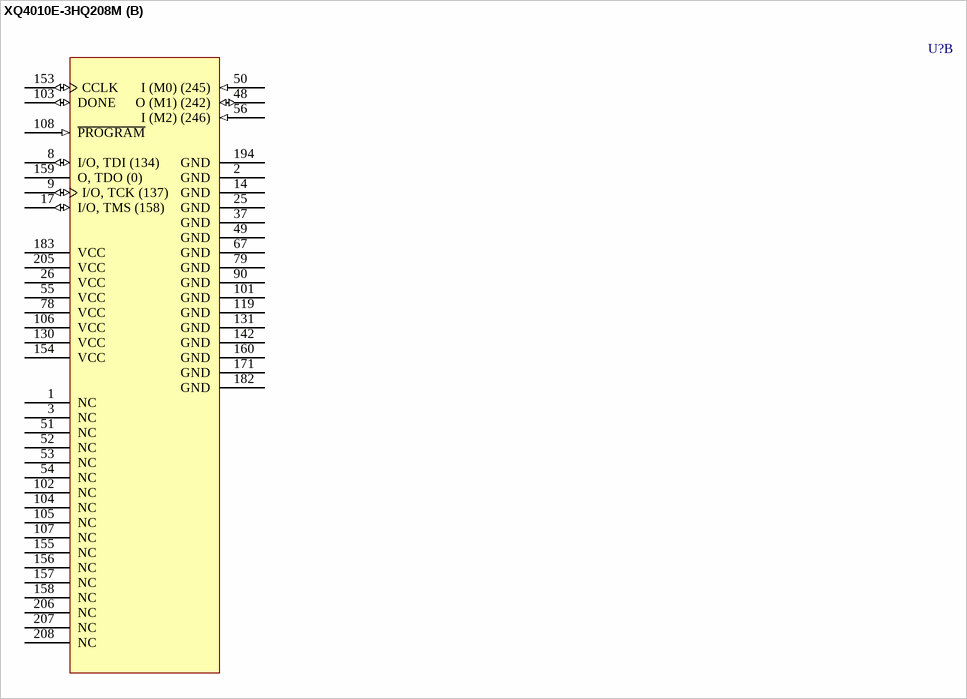
[diagram p158: symbol XQ4010E-3HQ208M]

## XQ4010E-3HQ208M
designator U?
QPro XQ4010E QML 5V High-Reliability FPGA, 160 I/Os, 208-Pin Heat Sink PQFP, Speed Grade 3, Military Ceramic Temperature Grade; Published: 17-Nov-2009; DatasheetVersion: ver2.2, Jun-2000; PackageVersion: ver1.2, Jun-2004; PackageReference: HQ208; Publisher: Altium Limited; PackageDescription: 208-Pin Heat Sink Quad Flat Pack (HQ208); Code_JEDEC: MS-029-FA-1; ComponentLink1Description: QPRO XQ4000E/EX Datasheet; ComponentLink1URL: http://www.xilinx.com/support/documentation/data_sheets/ds021.pdf; ComponentLink2Description: HQ208 Package Drawing; ComponentLink2URL: http://www.xilinx.com/support/documentation/package_specs/hq208.pdf; ComponentLink3Description: Xilinx.com Home; ComponentLink3URL: http://www.xilinx.com
footprint HQ208_N (Shrink QFP, 208-Leads, Body 28x28mm, Pitch 0.5mm, IPC Medium Density)
footprint HQ208_L (Shrink QFP, 208-Leads, Body 28x28mm, Pitch 0.5mm, IPC High Density)
footprint HQ208_M (Shrink QFP, 208-Leads, Body 28x28mm, Pitch 0.5mm, IPC Low Density)
signal-integrity model XQ4010E_HQ208 (XC-Series)
part A pins: 4 I/O, PGCK1 (A16) (122) (io), 5 I/O (A17) (125) (io), 6 I/O (128) (io), 7 I/O (131) (io), 10 I/O (140) (io), 11 I/O (143) (io), 12 I/O (146) (io), 13 I/O (149) (io), 15 I/O (152) (io), 16 I/O (155) (io), 18 I/O (161) (io), 19 I/O (164) (io), 20 I/O (167) (io), 21 I/O (170) (io), 22 I/O (173) (io), 23 I/O (176) (io), 24 I/O (179) (io), 27 I/O (182) (io), 28 I/O (185) (io), 29 I/O (188) (io), 30 I/O (191) (io), 31 I/O (194) (io), 32 I/O (197) (io), 33 I/O (200) (io), 34 I/O (203) (io), 35 I/O (206) (io), 36 I/O (209) (io), 38 I/O (212) (io), 39 I/O (215) (io), 40 I/O (218) (io), 41 I/O (221) (io), 42 I/O (224) (io), 43 I/O (227) (io), 44 I/O (230) (io), 45 I/O (233) (io), 46 I/O (236) (io), 47 I/O, SGCK2 (239) (io), 57 I/O, PGCK2 (247) (io), 58 I/O (HDC) (250) (io), 59 I/O (253) (io), 60 I/O (256) (io), 61 I/O (259) (io), 62 I/O (~{LDC}) (262) (io), 63 I/O (265) (io), 64 I/O (268) (io), 65 I/O (271) (io), 66 I/O (274) (io), 68 I/O (277) (io), 69 I/O (280) (io), 70 I/O (283) (io), 71 I/O (286) (io), 72 I/O (289) (io), 73 I/O (292) (io), 74 I/O (295) (io), 75 I/O (298) (io), 76 I/O (301) (io), 77 I/O (~{INIT}) (304) (io), 80 I/O (307) (io), 81 I/O (310) (io), 82 I/O (313) (io), 83 I/O (316) (io), 84 I/O (319) (io), 85 I/O (322) (io), 86 I/O (325) (io), 87 I/O (328) (io), 88 I/O (331) (io), 89 I/O (334) (io), 91 I/O (337) (io), 92 I/O (340) (io), 93 I/O (343) (io), 94 I/O (346) (io), 95 I/O (349) (io), 96 I/O (352) (io), 97 I/O (355) (io), 98 I/O (358) (io), 99 I/O (361) (io), 100 I/O, SGCK3 (364) (io), 109 I/O (D7) (367) (io), 110 I/O, PGCK3 (370) (io), 111 I/O (373) (io), 112 I/O (376) (io), 113 I/O (D6) (379) (io), 114 I/O (382) (io), 115 I/O (385) (io), 116 I/O (388) (io), 117 I/O (391) (io), 118 I/O (394) (io), 120 I/O (397) (io), 121 I/O (400) (io), 122 I/O (D5) (403) (io), 123 I/O (~{CS0}) (406) (io), 124 I/O (409) (io), 125 I/O (412) (io), 126 I/O (415) (io), 127 I/O (418) (io), 128 I/O (D4) (421) (io), 129 I/O (424) (io), 132 I/O (D3) (427) (io), 133 I/O (~{RS}) (430) (io), 134 I/O (433) (io), 135 I/O (436) (io), 136 I/O (439) (io), 137 I/O (442) (io), 138 I/O (D2) (445) (io), 139 I/O (448) (io), 140 I/O (451) (io), 141 I/O (454) (io), 143 I/O (457) (io), 144 I/O (460) (io), 145 I/O (463) (io), 146 I/O (466) (io), 147 I/O (D1) (469) (io), 148 I/O (~{RCLK}, RDY/~{BUSY}) (472) (io), 149 I/O (475) (io), 150 I/O (478) (io), 151 I/O (D0, DIN) (481) (io), 152 I/O, SGCK4 (DOUT) (484) (io), 161 I/O (A0, ~{WS}) (2) (io), 162 I/O, PGCK4 (A1) (5) (io), 163 I/O (8) (io), 164 I/O (11) (io), 165 I/O (CS1, A2) (14) (io), 166 I/O (A3) (17) (io), 167 I/O (20) (io), 168 I/O (23) (io), 169 I/O (26) (io), 170 I/O (29) (io), 172 I/O (32) (io), 173 I/O (35) (io), 174 I/O (A4) (38) (io), 175 I/O (A5) (41) (io), 176 I/O (44) (io), 177 I/O (47) (io), 178 I/O (50) (io), 179 I/O (53) (io), 180 I/O (A6) (56) (io), 181 I/O (A7) (59) (io), 184 I/O (A8) (62) (io), 185 I/O (A9) (65) (io), 186 I/O (19) (68) (io), 187 I/O (18) (71) (io), 188 I/O (74) (io), 189 I/O (77) (io), 190 I/O (A10) (80) (io), 191 I/O (A11) (83) (io), 192 I/O (86) (io), 193 I/O (89) (io), 195 I/O (92) (io), 196 I/O (95) (io), 197 I/O (98) (io), 198 I/O (101) (io), 199 I/O (A12) (104) (io), 200 I/O (A13) (107) (io), 201 I/O (110) (io), 202 I/O (113) (io), 203 I/O (A14) (116) (io), 204 I/O, SGCK1 (A15) (119) (io)
part B pins: 1 NC, 2 GND (power), 3 NC, 8 I/O, TDI (134) (io), 9 I/O, TCK (137) (io), 14 GND (power), 17 I/O, TMS (158) (io), 25 GND (power), 26 VCC (power), 37 GND (power), 48 O (M1) (242) (io), 49 GND (power), 50 I (M0) (245) (in), 51 NC, 52 NC, 53 NC, 54 NC, 55 VCC (power), 56 I (M2) (246) (in), 67 GND (power), 78 VCC (power), 79 GND (power), 90 GND (power), 101 GND (power), 102 NC, 103 DONE (io), 104 NC, 105 NC, 106 VCC (power), 107 NC, 108 ~{PROGRAM} (in), 119 GND (power), 130 VCC (power), 131 GND (power), 142 GND (power), 153 CCLK (io), 154 VCC (power), 155 NC, 156 NC, 157 NC, 158 NC, 159 O, TDO (0) (hiz), 160 GND (power), 171 GND (power), 182 GND (power), 183 VCC (power), 194 GND (power), 205 VCC (power), 206 NC, 207 NC, 208 NC

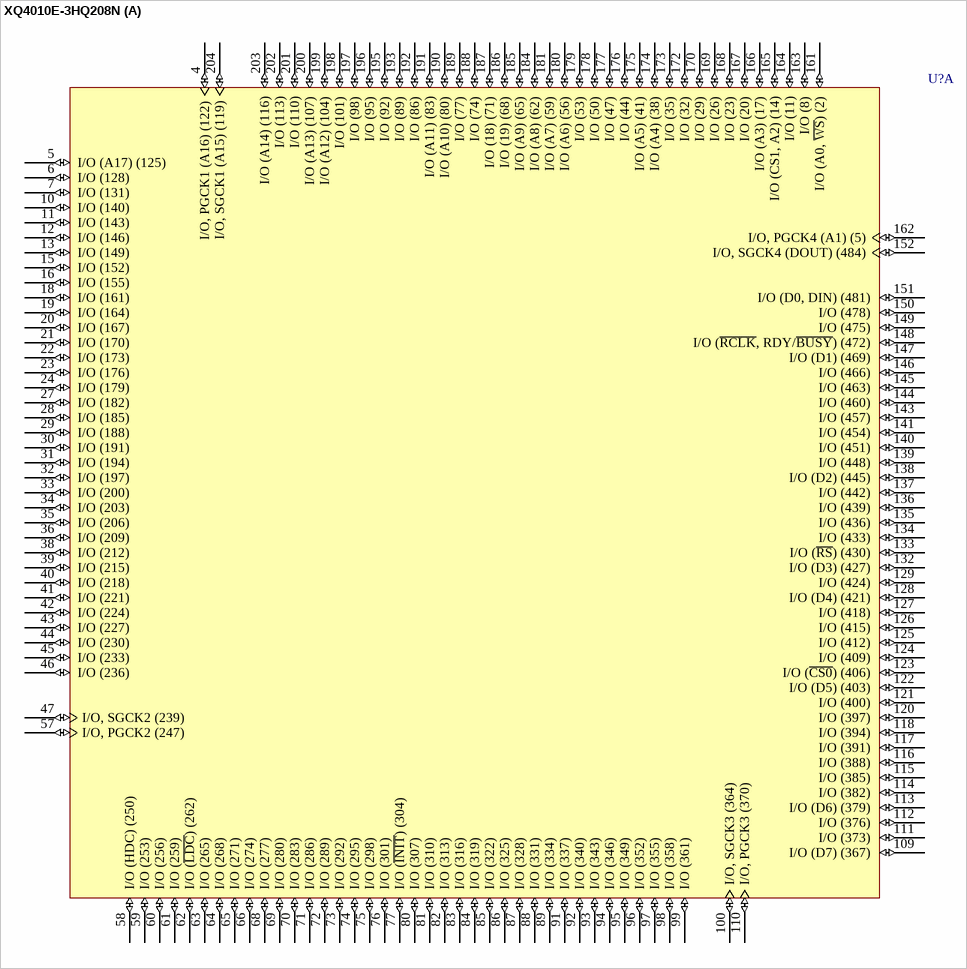
[diagram p159: symbol XQ4010E-3HQ208N]

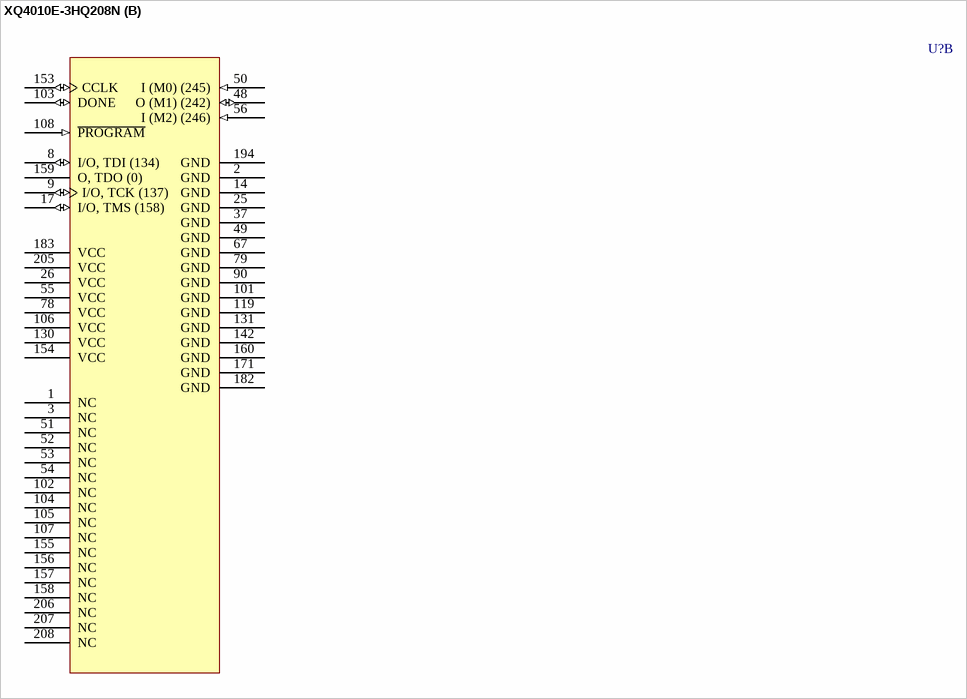
[diagram p160: symbol XQ4010E-3HQ208N]

## XQ4010E-3HQ208N
designator U?
QPro XQ4010E QML 5V High-Reliability FPGA, 208-Pin Heat Sink PQFP, Speed Grade 3, Military Plastic Temperature Grade; Published: 17-Nov-2009; DatasheetVersion: ver2.2, Jun-2000; PackageVersion: ver1.2, Jun-2004; PackageReference: HQ208; Publisher: Altium Limited; PackageDescription: 208-Pin Heat Sink Quad Flat Pack (HQ208); Code_JEDEC: MS-029-FA-1; ComponentLink1Description: QPRO XQ4000E/EX Datasheet; ComponentLink1URL: http://www.xilinx.com/support/documentation/data_sheets/ds021.pdf; ComponentLink2Description: HQ208 Package Drawing; ComponentLink2URL: http://www.xilinx.com/support/documentation/package_specs/hq208.pdf; ComponentLink3Description: Xilinx.com Home; ComponentLink3URL: http://www.xilinx.com
footprint HQ208_N (Shrink QFP, 208-Leads, Body 28x28mm, Pitch 0.5mm, IPC Medium Density)
footprint HQ208_L (Shrink QFP, 208-Leads, Body 28x28mm, Pitch 0.5mm, IPC High Density)
footprint HQ208_M (Shrink QFP, 208-Leads, Body 28x28mm, Pitch 0.5mm, IPC Low Density)
signal-integrity model XQ4010E_HQ208 (XC-Series)
part A pins: 4 I/O, PGCK1 (A16) (122) (io), 5 I/O (A17) (125) (io), 6 I/O (128) (io), 7 I/O (131) (io), 10 I/O (140) (io), 11 I/O (143) (io), 12 I/O (146) (io), 13 I/O (149) (io), 15 I/O (152) (io), 16 I/O (155) (io), 18 I/O (161) (io), 19 I/O (164) (io), 20 I/O (167) (io), 21 I/O (170) (io), 22 I/O (173) (io), 23 I/O (176) (io), 24 I/O (179) (io), 27 I/O (182) (io), 28 I/O (185) (io), 29 I/O (188) (io), 30 I/O (191) (io), 31 I/O (194) (io), 32 I/O (197) (io), 33 I/O (200) (io), 34 I/O (203) (io), 35 I/O (206) (io), 36 I/O (209) (io), 38 I/O (212) (io), 39 I/O (215) (io), 40 I/O (218) (io), 41 I/O (221) (io), 42 I/O (224) (io), 43 I/O (227) (io), 44 I/O (230) (io), 45 I/O (233) (io), 46 I/O (236) (io), 47 I/O, SGCK2 (239) (io), 57 I/O, PGCK2 (247) (io), 58 I/O (HDC) (250) (io), 59 I/O (253) (io), 60 I/O (256) (io), 61 I/O (259) (io), 62 I/O (~{LDC}) (262) (io), 63 I/O (265) (io), 64 I/O (268) (io), 65 I/O (271) (io), 66 I/O (274) (io), 68 I/O (277) (io), 69 I/O (280) (io), 70 I/O (283) (io), 71 I/O (286) (io), 72 I/O (289) (io), 73 I/O (292) (io), 74 I/O (295) (io), 75 I/O (298) (io), 76 I/O (301) (io), 77 I/O (~{INIT}) (304) (io), 80 I/O (307) (io), 81 I/O (310) (io), 82 I/O (313) (io), 83 I/O (316) (io), 84 I/O (319) (io), 85 I/O (322) (io), 86 I/O (325) (io), 87 I/O (328) (io), 88 I/O (331) (io), 89 I/O (334) (io), 91 I/O (337) (io), 92 I/O (340) (io), 93 I/O (343) (io), 94 I/O (346) (io), 95 I/O (349) (io), 96 I/O (352) (io), 97 I/O (355) (io), 98 I/O (358) (io), 99 I/O (361) (io), 100 I/O, SGCK3 (364) (io), 109 I/O (D7) (367) (io), 110 I/O, PGCK3 (370) (io), 111 I/O (373) (io), 112 I/O (376) (io), 113 I/O (D6) (379) (io), 114 I/O (382) (io), 115 I/O (385) (io), 116 I/O (388) (io), 117 I/O (391) (io), 118 I/O (394) (io), 120 I/O (397) (io), 121 I/O (400) (io), 122 I/O (D5) (403) (io), 123 I/O (~{CS0}) (406) (io), 124 I/O (409) (io), 125 I/O (412) (io), 126 I/O (415) (io), 127 I/O (418) (io), 128 I/O (D4) (421) (io), 129 I/O (424) (io), 132 I/O (D3) (427) (io), 133 I/O (~{RS}) (430) (io), 134 I/O (433) (io), 135 I/O (436) (io), 136 I/O (439) (io), 137 I/O (442) (io), 138 I/O (D2) (445) (io), 139 I/O (448) (io), 140 I/O (451) (io), 141 I/O (454) (io), 143 I/O (457) (io), 144 I/O (460) (io), 145 I/O (463) (io), 146 I/O (466) (io), 147 I/O (D1) (469) (io), 148 I/O (~{RCLK}, RDY/~{BUSY}) (472) (io), 149 I/O (475) (io), 150 I/O (478) (io), 151 I/O (D0, DIN) (481) (io), 152 I/O, SGCK4 (DOUT) (484) (io), 161 I/O (A0, ~{WS}) (2) (io), 162 I/O, PGCK4 (A1) (5) (io), 163 I/O (8) (io), 164 I/O (11) (io), 165 I/O (CS1, A2) (14) (io), 166 I/O (A3) (17) (io), 167 I/O (20) (io), 168 I/O (23) (io), 169 I/O (26) (io), 170 I/O (29) (io), 172 I/O (32) (io), 173 I/O (35) (io), 174 I/O (A4) (38) (io), 175 I/O (A5) (41) (io), 176 I/O (44) (io), 177 I/O (47) (io), 178 I/O (50) (io), 179 I/O (53) (io), 180 I/O (A6) (56) (io), 181 I/O (A7) (59) (io), 184 I/O (A8) (62) (io), 185 I/O (A9) (65) (io), 186 I/O (19) (68) (io), 187 I/O (18) (71) (io), 188 I/O (74) (io), 189 I/O (77) (io), 190 I/O (A10) (80) (io), 191 I/O (A11) (83) (io), 192 I/O (86) (io), 193 I/O (89) (io), 195 I/O (92) (io), 196 I/O (95) (io), 197 I/O (98) (io), 198 I/O (101) (io), 199 I/O (A12) (104) (io), 200 I/O (A13) (107) (io), 201 I/O (110) (io), 202 I/O (113) (io), 203 I/O (A14) (116) (io), 204 I/O, SGCK1 (A15) (119) (io)
part B pins: 1 NC, 2 GND (power), 3 NC, 8 I/O, TDI (134) (io), 9 I/O, TCK (137) (io), 14 GND (power), 17 I/O, TMS (158) (io), 25 GND (power), 26 VCC (power), 37 GND (power), 48 O (M1) (242) (io), 49 GND (power), 50 I (M0) (245) (in), 51 NC, 52 NC, 53 NC, 54 NC, 55 VCC (power), 56 I (M2) (246) (in), 67 GND (power), 78 VCC (power), 79 GND (power), 90 GND (power), 101 GND (power), 102 NC, 103 DONE (io), 104 NC, 105 NC, 106 VCC (power), 107 NC, 108 ~{PROGRAM} (in), 119 GND (power), 130 VCC (power), 131 GND (power), 142 GND (power), 153 CCLK (io), 154 VCC (power), 155 NC, 156 NC, 157 NC, 158 NC, 159 O, TDO (0) (hiz), 160 GND (power), 171 GND (power), 182 GND (power), 183 VCC (power), 194 GND (power), 205 VCC (power), 206 NC, 207 NC, 208 NC

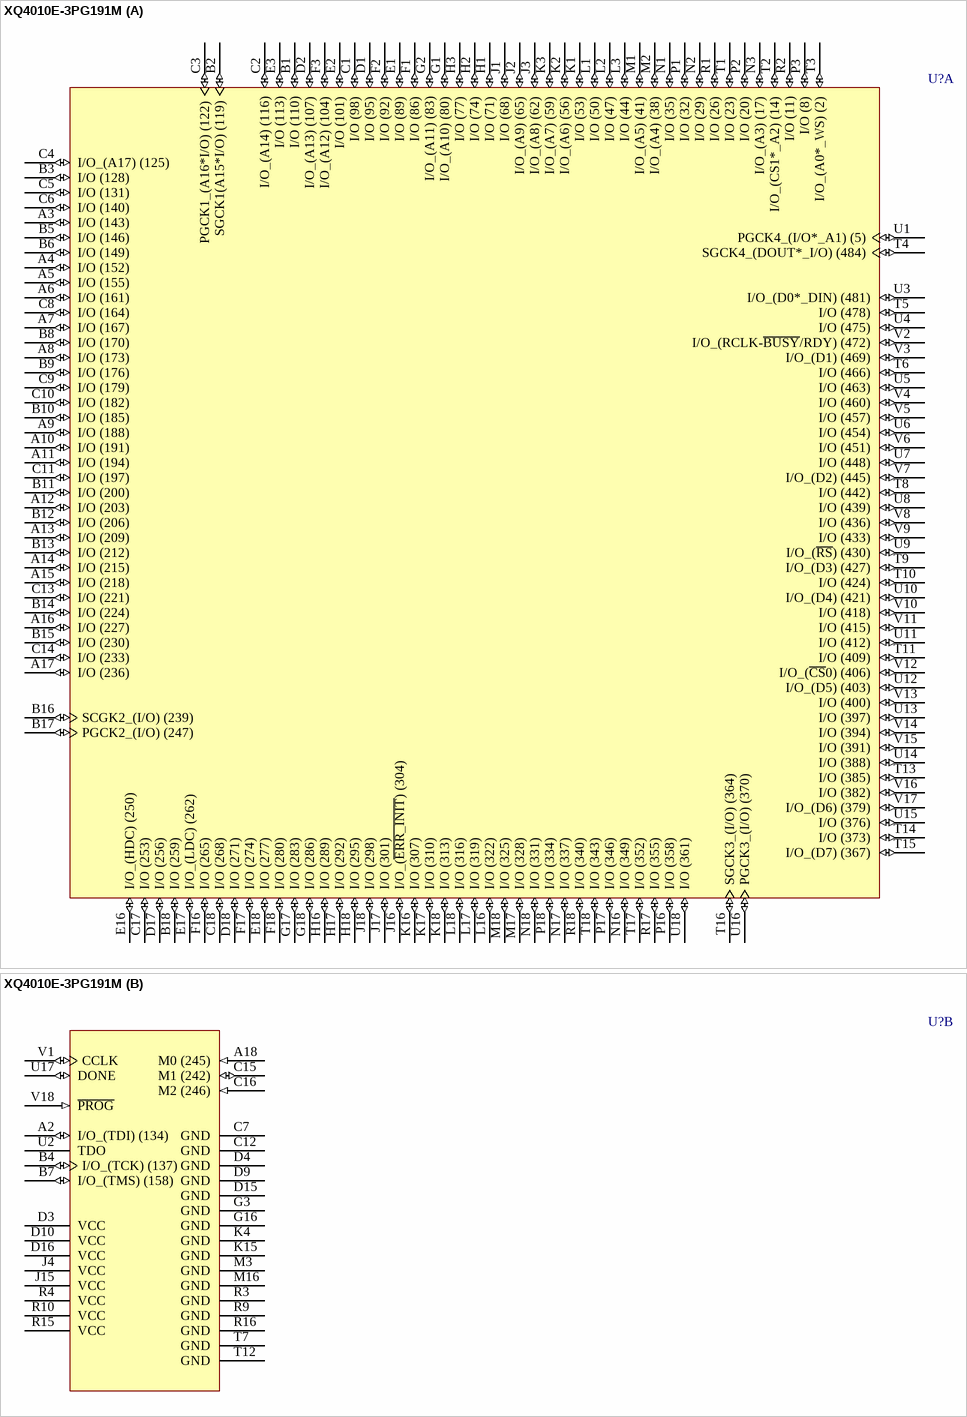
[diagram p161: symbol XQ4010E-3PG191M]

## XQ4010E-3PG191M
designator U?
QPro XQ4010E QML 5V High-Reliability FPGA, 160 I/Os, 191-Pin Ceramic PGA, Speed Grade 3, Military Ceramic Temperature Grade; Published: 17-Nov-2009; DatasheetVersion: ver2.2, Jun-2000; PackageVersion: ver1.1, Apr-2001; PackageReference: PG191; Publisher: Altium Limited; PackageDescription: 191-Pin Ceramic Pin Grid Array (PG191); ComponentLink1Description: QPRO XQ4000E/EX Datasheet; ComponentLink1URL: http://www.xilinx.com/support/documentation/data_sheets/ds021.pdf; ComponentLink2Description: PG191 Package Drawing; ComponentLink2URL: http://www.xilinx.com/support/documentation/package_specs/pg191.pdf; ComponentLink3Description: Xilinx.com Home; ComponentLink3URL: http://www.xilinx.com
footprint PG191 (PGA, 191-Leads, Body 47x47mm, Pitch 2.54mm)
signal-integrity model XQ4010E_PG191 (XC-Series)
part A pins: A3 I/O (143) (io), A4 I/O (152) (io), A5 I/O (155) (io), A6 I/O (161) (io), A7 I/O (167) (io), A8 I/O (173) (io), A9 I/O (188) (io), A10 I/O (191) (io), A11 I/O (194) (io), A12 I/O (203) (io), A13 I/O (209) (io), A14 I/O (215) (io), A15 I/O (218) (io), A16 I/O (227) (io), A17 I/O (236) (io), B1 I/O (110) (io), B2 SGCK1(A15*I/O) (119) (io), B3 I/O (128) (io), B5 I/O (146) (io), B6 I/O (149) (io), B8 I/O (170) (io), B9 I/O (176) (io), B10 I/O (185) (io), B11 I/O (200) (io), B12 I/O (206) (io), B13 I/O (212) (io), B14 I/O (224) (io), B15 I/O (230) (io), B16 SCGK2_(I/O) (239) (io), B17 PGCK2_(I/O) (247) (io), B18 I/O (259) (io), C1 I/O (98) (io), C2 I/O_(A14) (116) (io), C3 PGCK1_(A16*I/O) (122) (io), C4 I/O_(A17) (125) (io), C5 I/O (131) (io), C6 I/O (140) (io), C8 I/O (164) (io), C9 I/O (179) (io), C10 I/O (182) (io), C11 I/O (197) (io), C13 I/O (221) (io), C14 I/O (233) (io), C17 I/O (253) (io), C18 I/O (268) (io), D1 I/O (95) (io), D2 I/O_(A13) (107) (io), D17 I/O (256) (io), D18 I/O (271) (io), E1 I/O (89) (io), E2 I/O (101) (io), E3 I/O (113) (io), E16 I/O_(HDC) (250) (io), E17 I/O_(LDC) (262) (io), E18 I/O (277) (io), F1 I/O (86) (io), F2 I/O (92) (io), F3 I/O_(A12) (104) (io), F16 I/O (265) (io), F17 I/O (274) (io), F18 I/O (280) (io), G1 I/O_(A10) (80) (io), G2 I/O_(A11) (83) (io), G17 I/O (283) (io), G18 I/O (286) (io), H1 I/O (71) (io), H2 I/O (74) (io), H3 I/O (77) (io), H16 I/O (289) (io), H17 I/O (292) (io), H18 I/O (295) (io), J1 I/O (68) (io), J2 I/O_(A9) (65) (io), J3 I/O_(A8) (62) (io), J16 I/O_(~{ERR_INIT}) (304) (io), J17 I/O (301) (io), J18 I/O (298) (io), K1 I/O (53) (io), K2 I/O_(A6) (56) (io), K3 I/O_(A7) (59) (io), K16 I/O (307) (io), K17 I/O (310) (io), K18 I/O (313) (io), L1 I/O (50) (io), L2 I/O (47) (io), L3 I/O (44) (io), L16 I/O (322) (io), L17 I/O (319) (io), L18 I/O (316) (io), M1 I/O_(A5) (41) (io), M2 I/O_(A4) (38) (io), M17 I/O (328) (io), M18 I/O (325) (io), N1 I/O (35) (io), N2 I/O (29) (io), N3 I/O_(A3) (17) (io), N16 I/O (349) (io), N17 I/O (337) (io), N18 I/O (331) (io), P1 I/O (32) (io), P2 I/O (20) (io), P3 I/O (8) (io), P16 I/O (358) (io), P17 I/O (346) (io), P18 I/O (334) (io), R1 I/O (26) (io), R2 I/O (11) (io), R17 I/O (355) (io), R18 I/O (340) (io), T1 I/O (23) (io), T2 I/O_(CS1*_A2) (14) (io), T3 I/O_(A0*_WS) (2) (io), T4 SGCK4_(DOUT*_I/O) (484) (io), T5 I/O (478) (io), T6 I/O (466) (io), T8 I/O (442) (io), T9 I/O_(D3) (427) (io), T10 I/O (424) (io), T11 I/O (409) (io), T13 I/O (385) (io), T14 I/O (373) (io), T15 I/O_(D7) (367) (io), T16 SGCK3_(I/O) (364) (io), T17 I/O (352) (io), T18 I/O (343) (io), U1 PGCK4_(I/O*_A1) (5) (io), U3 I/O_(D0*_DIN) (481) (io), U4 I/O (475) (io), U5 I/O (463) (io), U6 I/O (454) (io), U7 I/O (448) (io), U8 I/O (439) (io), U9 I/O_(~{RS}) (430) (io), U10 I/O_(D4) (421) (io), U11 I/O (412) (io), U12 I/O_(D5) (403) (io), U13 I/O (397) (io), U14 I/O (388) (io), U15 I/O (376) (io), U16 PGCK3_(I/O) (370) (io), U18 I/O (361) (io), V2 I/O_(RCLK-~{BUSY}/RDY) (472) (io), V3 I/O_(D1) (469) (io), V4 I/O (460) (io), V5 I/O (457) (io), V6 I/O (451) (io), V7 I/O_(D2) (445) (io), V8 I/O (436) (io), V9 I/O (433) (io), V10 I/O (418) (io), V11 I/O (415) (io), V12 I/O_(~{CS}0) (406) (io), V13 I/O (400) (io), V14 I/O (394) (io), V15 I/O (391) (io), V16 I/O (382) (io), V17 I/O_(D6) (379) (io)
part B pins: A2 I/O_(TDI) (134) (io), A18 M0 (245) (in), B4 I/O_(TCK) (137) (io), B7 I/O_(TMS) (158) (io), C7 GND (power), C12 GND (power), C15 M1 (242) (io), C16 M2 (246) (in), D3 VCC (power), D4 GND (power), D9 GND (power), D10 VCC (power), D15 GND (power), D16 VCC (power), G3 GND (power), G16 GND (power), J4 VCC (power), J15 VCC (power), K4 GND (power), K15 GND (power), M3 GND (power), M16 GND (power), R3 GND (power), R4 VCC (power), R9 GND (power), R10 VCC (power), R15 VCC (power), R16 GND (power), T7 GND (power), T12 GND (power), U2 TDO (hiz), U17 DONE (io), V1 CCLK (io), V18 ~{PROG} (in)

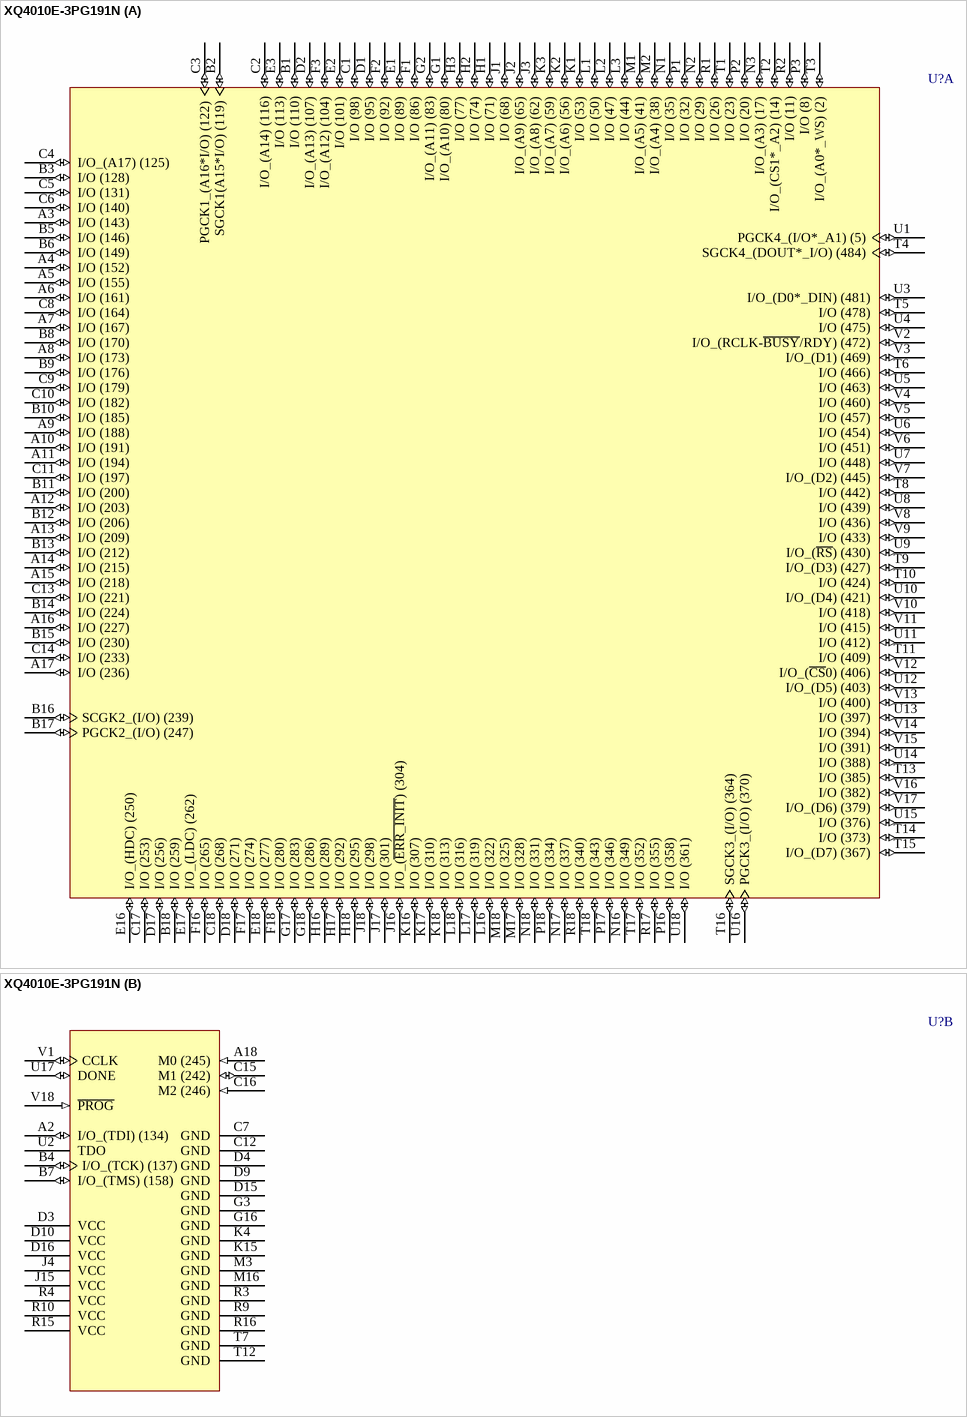
[diagram p162: symbol XQ4010E-3PG191N]

## XQ4010E-3PG191N
designator U?
QPro XQ4010E QML 5V High-Reliability FPGA, 160 I/Os, 191-Pin Ceramic PGA, Speed Grade 3, Military Plastic Temperature Grade; Published: 17-Nov-2009; DatasheetVersion: ver2.2, Jun-2000; PackageVersion: ver1.1, Apr-2001; PackageReference: PG191; Publisher: Altium Limited; PackageDescription: 191-Pin Ceramic Pin Grid Array (PG191); ComponentLink1Description: QPRO XQ4000E/EX Datasheet; ComponentLink1URL: http://www.xilinx.com/support/documentation/data_sheets/ds021.pdf; ComponentLink2Description: PG191 Package Drawing; ComponentLink2URL: http://www.xilinx.com/support/documentation/package_specs/pg191.pdf; ComponentLink3Description: Xilinx.com Home; ComponentLink3URL: http://www.xilinx.com
footprint PG191 (PGA, 191-Leads, Body 47x47mm, Pitch 2.54mm)
signal-integrity model XQ4010E_PG191 (XC-Series)
part A pins: A3 I/O (143) (io), A4 I/O (152) (io), A5 I/O (155) (io), A6 I/O (161) (io), A7 I/O (167) (io), A8 I/O (173) (io), A9 I/O (188) (io), A10 I/O (191) (io), A11 I/O (194) (io), A12 I/O (203) (io), A13 I/O (209) (io), A14 I/O (215) (io), A15 I/O (218) (io), A16 I/O (227) (io), A17 I/O (236) (io), B1 I/O (110) (io), B2 SGCK1(A15*I/O) (119) (io), B3 I/O (128) (io), B5 I/O (146) (io), B6 I/O (149) (io), B8 I/O (170) (io), B9 I/O (176) (io), B10 I/O (185) (io), B11 I/O (200) (io), B12 I/O (206) (io), B13 I/O (212) (io), B14 I/O (224) (io), B15 I/O (230) (io), B16 SCGK2_(I/O) (239) (io), B17 PGCK2_(I/O) (247) (io), B18 I/O (259) (io), C1 I/O (98) (io), C2 I/O_(A14) (116) (io), C3 PGCK1_(A16*I/O) (122) (io), C4 I/O_(A17) (125) (io), C5 I/O (131) (io), C6 I/O (140) (io), C8 I/O (164) (io), C9 I/O (179) (io), C10 I/O (182) (io), C11 I/O (197) (io), C13 I/O (221) (io), C14 I/O (233) (io), C17 I/O (253) (io), C18 I/O (268) (io), D1 I/O (95) (io), D2 I/O_(A13) (107) (io), D17 I/O (256) (io), D18 I/O (271) (io), E1 I/O (89) (io), E2 I/O (101) (io), E3 I/O (113) (io), E16 I/O_(HDC) (250) (io), E17 I/O_(LDC) (262) (io), E18 I/O (277) (io), F1 I/O (86) (io), F2 I/O (92) (io), F3 I/O_(A12) (104) (io), F16 I/O (265) (io), F17 I/O (274) (io), F18 I/O (280) (io), G1 I/O_(A10) (80) (io), G2 I/O_(A11) (83) (io), G17 I/O (283) (io), G18 I/O (286) (io), H1 I/O (71) (io), H2 I/O (74) (io), H3 I/O (77) (io), H16 I/O (289) (io), H17 I/O (292) (io), H18 I/O (295) (io), J1 I/O (68) (io), J2 I/O_(A9) (65) (io), J3 I/O_(A8) (62) (io), J16 I/O_(~{ERR_INIT}) (304) (io), J17 I/O (301) (io), J18 I/O (298) (io), K1 I/O (53) (io), K2 I/O_(A6) (56) (io), K3 I/O_(A7) (59) (io), K16 I/O (307) (io), K17 I/O (310) (io), K18 I/O (313) (io), L1 I/O (50) (io), L2 I/O (47) (io), L3 I/O (44) (io), L16 I/O (322) (io), L17 I/O (319) (io), L18 I/O (316) (io), M1 I/O_(A5) (41) (io), M2 I/O_(A4) (38) (io), M17 I/O (328) (io), M18 I/O (325) (io), N1 I/O (35) (io), N2 I/O (29) (io), N3 I/O_(A3) (17) (io), N16 I/O (349) (io), N17 I/O (337) (io), N18 I/O (331) (io), P1 I/O (32) (io), P2 I/O (20) (io), P3 I/O (8) (io), P16 I/O (358) (io), P17 I/O (346) (io), P18 I/O (334) (io), R1 I/O (26) (io), R2 I/O (11) (io), R17 I/O (355) (io), R18 I/O (340) (io), T1 I/O (23) (io), T2 I/O_(CS1*_A2) (14) (io), T3 I/O_(A0*_WS) (2) (io), T4 SGCK4_(DOUT*_I/O) (484) (io), T5 I/O (478) (io), T6 I/O (466) (io), T8 I/O (442) (io), T9 I/O_(D3) (427) (io), T10 I/O (424) (io), T11 I/O (409) (io), T13 I/O (385) (io), T14 I/O (373) (io), T15 I/O_(D7) (367) (io), T16 SGCK3_(I/O) (364) (io), T17 I/O (352) (io), T18 I/O (343) (io), U1 PGCK4_(I/O*_A1) (5) (io), U3 I/O_(D0*_DIN) (481) (io), U4 I/O (475) (io), U5 I/O (463) (io), U6 I/O (454) (io), U7 I/O (448) (io), U8 I/O (439) (io), U9 I/O_(~{RS}) (430) (io), U10 I/O_(D4) (421) (io), U11 I/O (412) (io), U12 I/O_(D5) (403) (io), U13 I/O (397) (io), U14 I/O (388) (io), U15 I/O (376) (io), U16 PGCK3_(I/O) (370) (io), U18 I/O (361) (io), V2 I/O_(RCLK-~{BUSY}/RDY) (472) (io), V3 I/O_(D1) (469) (io), V4 I/O (460) (io), V5 I/O (457) (io), V6 I/O (451) (io), V7 I/O_(D2) (445) (io), V8 I/O (436) (io), V9 I/O (433) (io), V10 I/O (418) (io), V11 I/O (415) (io), V12 I/O_(~{CS}0) (406) (io), V13 I/O (400) (io), V14 I/O (394) (io), V15 I/O (391) (io), V16 I/O (382) (io), V17 I/O_(D6) (379) (io)
part B pins: A2 I/O_(TDI) (134) (io), A18 M0 (245) (in), B4 I/O_(TCK) (137) (io), B7 I/O_(TMS) (158) (io), C7 GND (power), C12 GND (power), C15 M1 (242) (io), C16 M2 (246) (in), D3 VCC (power), D4 GND (power), D9 GND (power), D10 VCC (power), D15 GND (power), D16 VCC (power), G3 GND (power), G16 GND (power), J4 VCC (power), J15 VCC (power), K4 GND (power), K15 GND (power), M3 GND (power), M16 GND (power), R3 GND (power), R4 VCC (power), R9 GND (power), R10 VCC (power), R15 VCC (power), R16 GND (power), T7 GND (power), T12 GND (power), U2 TDO (hiz), U17 DONE (io), V1 CCLK (io), V18 ~{PROG} (in)

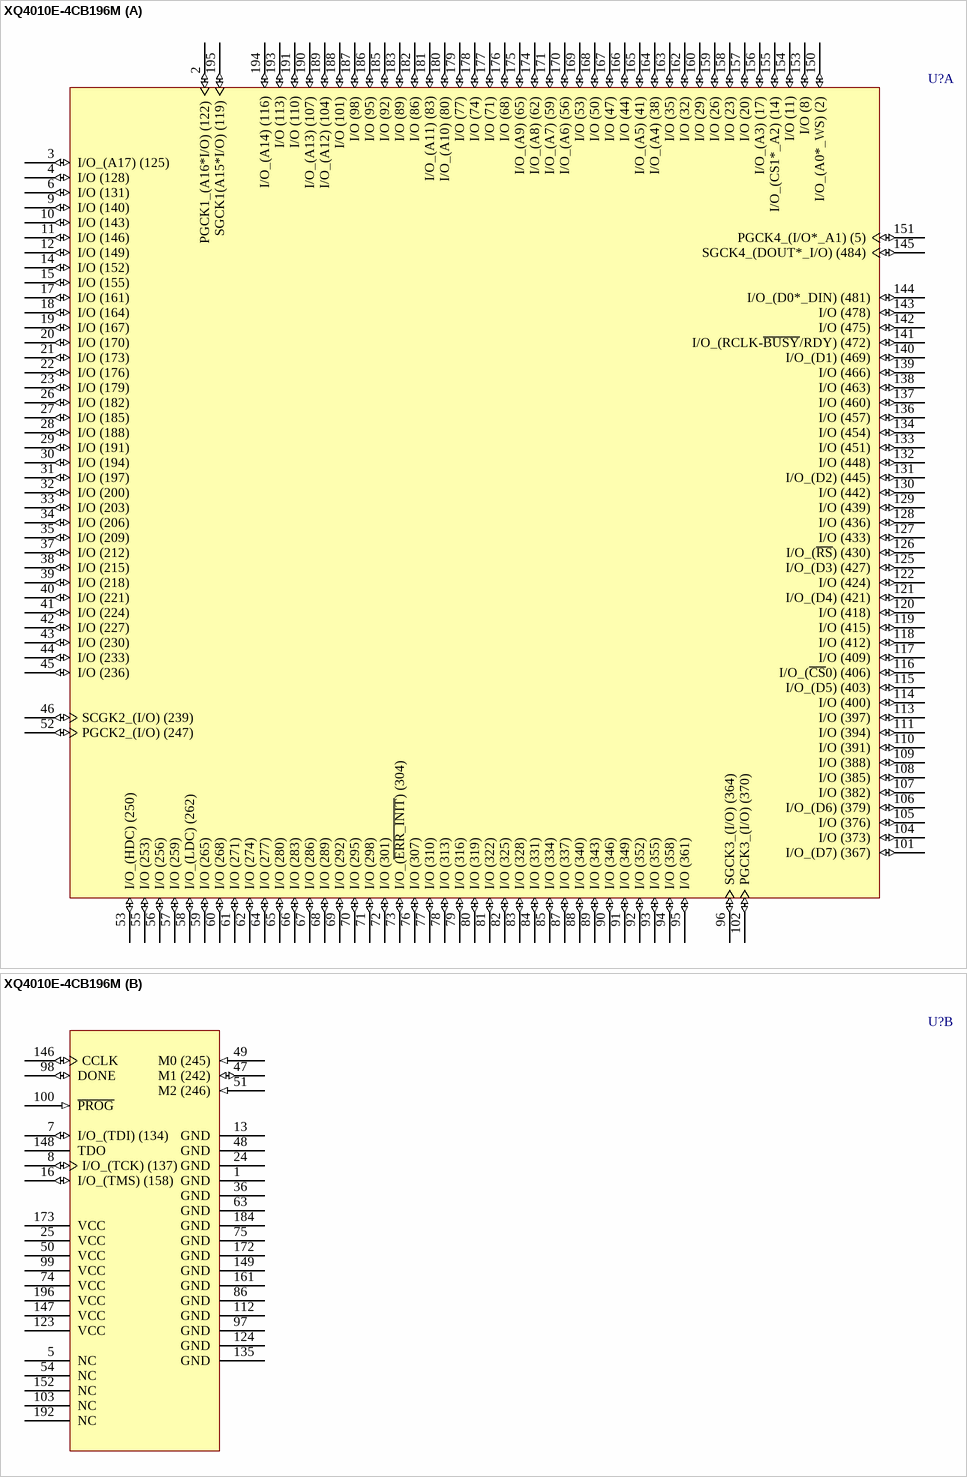
[diagram p163: symbol XQ4010E-4CB196M]

## XQ4010E-4CB196M
designator U?
QPro XQ4010E QML 5V High-Reliability FPGA, 196-Pin CQFP, Speed Grade 4, Military Ceramic Temperature Grade; Published: 17-Nov-2009; DatasheetVersion: ver2.2, Jun-2000; PackageVersion: ver1.0.1, Apr-2008; PackageReference: CB196; Publisher: Altium Limited; PackageDescription: 196-Pin Ceramic Brazed Quad Flat Pack (CB196); Code_JEDEC: MO-113-AB; ComponentLink1Description: QPRO XQ4000E/EX Datasheet; ComponentLink1URL: http://www.xilinx.com/support/documentation/data_sheets/ds021.pdf; ComponentLink2Description: CB196 Package Drawing; ComponentLink2URL: http://www.xilinx.com/support/documentation/package_specs/cb196.pdf; ComponentLink3Description: Xilinx.com Home; ComponentLink3URL: http://www.xilinx.com
footprint CB196_N (CQFP, 196-Leads, Body 34x34mm; Pitch 0.635mm, Gullwing Leadform, IPC Medium Density)
footprint CB196_L (CQFP, 196-Leads, Body 34x34mm; Pitch 0.635mm, Gullwing Leadform, IPC High Density)
footprint CB196_M (CQFP, 196-Leads, Body 34x34mm; Pitch 0.635mm, Gullwing Leadform, IPC Low Density)
signal-integrity model XQ4010E_CB196 (XC-Series)
part A pins: 2 PGCK1_(A16*I/O) (122) (io), 3 I/O_(A17) (125) (io), 4 I/O (128) (io), 6 I/O (131) (io), 9 I/O (140) (io), 10 I/O (143) (io), 11 I/O (146) (io), 12 I/O (149) (io), 14 I/O (152) (io), 15 I/O (155) (io), 17 I/O (161) (io), 18 I/O (164) (io), 19 I/O (167) (io), 20 I/O (170) (io), 21 I/O (173) (io), 22 I/O (176) (io), 23 I/O (179) (io), 26 I/O (182) (io), 27 I/O (185) (io), 28 I/O (188) (io), 29 I/O (191) (io), 30 I/O (194) (io), 31 I/O (197) (io), 32 I/O (200) (io), 33 I/O (203) (io), 34 I/O (206) (io), 35 I/O (209) (io), 37 I/O (212) (io), 38 I/O (215) (io), 39 I/O (218) (io), 40 I/O (221) (io), 41 I/O (224) (io), 42 I/O (227) (io), 43 I/O (230) (io), 44 I/O (233) (io), 45 I/O (236) (io), 46 SCGK2_(I/O) (239) (io), 52 PGCK2_(I/O) (247) (io), 53 I/O_(HDC) (250) (io), 55 I/O (253) (io), 56 I/O (256) (io), 57 I/O (259) (io), 58 I/O_(LDC) (262) (io), 59 I/O (265) (io), 60 I/O (268) (io), 61 I/O (271) (io), 62 I/O (274) (io), 64 I/O (277) (io), 65 I/O (280) (io), 66 I/O (283) (io), 67 I/O (286) (io), 68 I/O (289) (io), 69 I/O (292) (io), 70 I/O (295) (io), 71 I/O (298) (io), 72 I/O (301) (io), 73 I/O_(~{ERR_INIT}) (304) (io), 76 I/O (307) (io), 77 I/O (310) (io), 78 I/O (313) (io), 79 I/O (316) (io), 80 I/O (319) (io), 81 I/O (322) (io), 82 I/O (325) (io), 83 I/O (328) (io), 84 I/O (331) (io), 85 I/O (334) (io), 87 I/O (337) (io), 88 I/O (340) (io), 89 I/O (343) (io), 90 I/O (346) (io), 91 I/O (349) (io), 92 I/O (352) (io), 93 I/O (355) (io), 94 I/O (358) (io), 95 I/O (361) (io), 96 SGCK3_(I/O) (364) (io), 101 I/O_(D7) (367) (io), 102 PGCK3_(I/O) (370) (io), 104 I/O (373) (io), 105 I/O (376) (io), 106 I/O_(D6) (379) (io), 107 I/O (382) (io), 108 I/O (385) (io), 109 I/O (388) (io), 110 I/O (391) (io), 111 I/O (394) (io), 113 I/O (397) (io), 114 I/O (400) (io), 115 I/O_(D5) (403) (io), 116 I/O_(~{CS}0) (406) (io), 117 I/O (409) (io), 118 I/O (412) (io), 119 I/O (415) (io), 120 I/O (418) (io), 121 I/O_(D4) (421) (io), 122 I/O (424) (io), 125 I/O_(D3) (427) (io), 126 I/O_(~{RS}) (430) (io), 127 I/O (433) (io), 128 I/O (436) (io), 129 I/O (439) (io), 130 I/O (442) (io), 131 I/O_(D2) (445) (io), 132 I/O (448) (io), 133 I/O (451) (io), 134 I/O (454) (io), 136 I/O (457) (io), 137 I/O (460) (io), 138 I/O (463) (io), 139 I/O (466) (io), 140 I/O_(D1) (469) (io), 141 I/O_(RCLK-~{BUSY}/RDY) (472) (io), 142 I/O (475) (io), 143 I/O (478) (io), 144 I/O_(D0*_DIN) (481) (io), 145 SGCK4_(DOUT*_I/O) (484) (io), 150 I/O_(A0*_WS) (2) (io), 151 PGCK4_(I/O*_A1) (5) (io), 153 I/O (8) (io), 154 I/O (11) (io), 155 I/O_(CS1*_A2) (14) (io), 156 I/O_(A3) (17) (io), 157 I/O (20) (io), 158 I/O (23) (io), 159 I/O (26) (io), 160 I/O (29) (io), 162 I/O (32) (io), 163 I/O (35) (io), 164 I/O_(A4) (38) (io), 165 I/O_(A5) (41) (io), 166 I/O (44) (io), 167 I/O (47) (io), 168 I/O (50) (io), 169 I/O (53) (io), 170 I/O_(A6) (56) (io), 171 I/O_(A7) (59) (io), 174 I/O_(A8) (62) (io), 175 I/O_(A9) (65) (io), 176 I/O (68) (io), 177 I/O (71) (io), 178 I/O (74) (io), 179 I/O (77) (io), 180 I/O_(A10) (80) (io), 181 I/O_(A11) (83) (io), 182 I/O (86) (io), 183 I/O (89) (io), 185 I/O (92) (io), 186 I/O (95) (io), 187 I/O (98) (io), 188 I/O (101) (io), 189 I/O_(A12) (104) (io), 190 I/O_(A13) (107) (io), 191 I/O (110) (io), 193 I/O (113) (io), 194 I/O_(A14) (116) (io), 195 SGCK1(A15*I/O) (119) (io)
part B pins: 1 GND (power), 5 NC, 7 I/O_(TDI) (134) (io), 8 I/O_(TCK) (137) (io), 13 GND (power), 16 I/O_(TMS) (158) (io), 24 GND (power), 25 VCC (power), 36 GND (power), 47 M1 (242) (io), 48 GND (power), 49 M0 (245) (in), 50 VCC (power), 51 M2 (246) (in), 54 NC, 63 GND (power), 74 VCC (power), 75 GND (power), 86 GND (power), 97 GND (power), 98 DONE (io), 99 VCC (power), 100 ~{PROG} (in), 103 NC, 112 GND (power), 123 VCC (power), 124 GND (power), 135 GND (power), 146 CCLK (io), 147 VCC (power), 148 TDO (hiz), 149 GND (power), 152 NC, 161 GND (power), 172 GND (power), 173 VCC (power), 184 GND (power), 192 NC, 196 VCC (power)

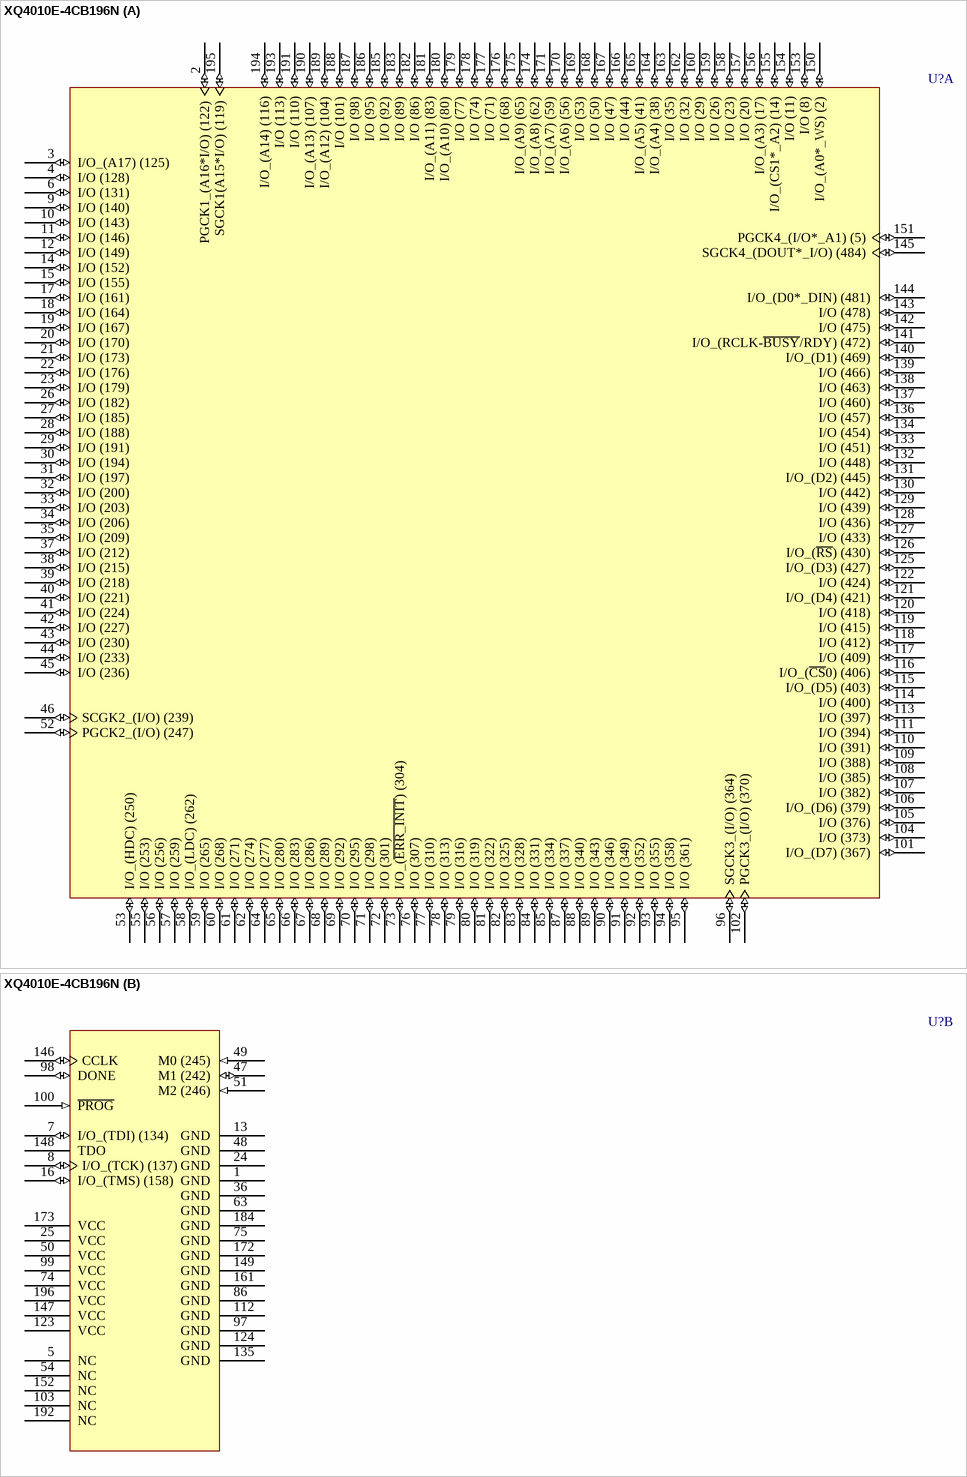
[diagram p164: symbol XQ4010E-4CB196N]